# Altium integrated library Motorola Microcontroller 32-Bit.IntLib: 337 symbols (part 10 of 29)
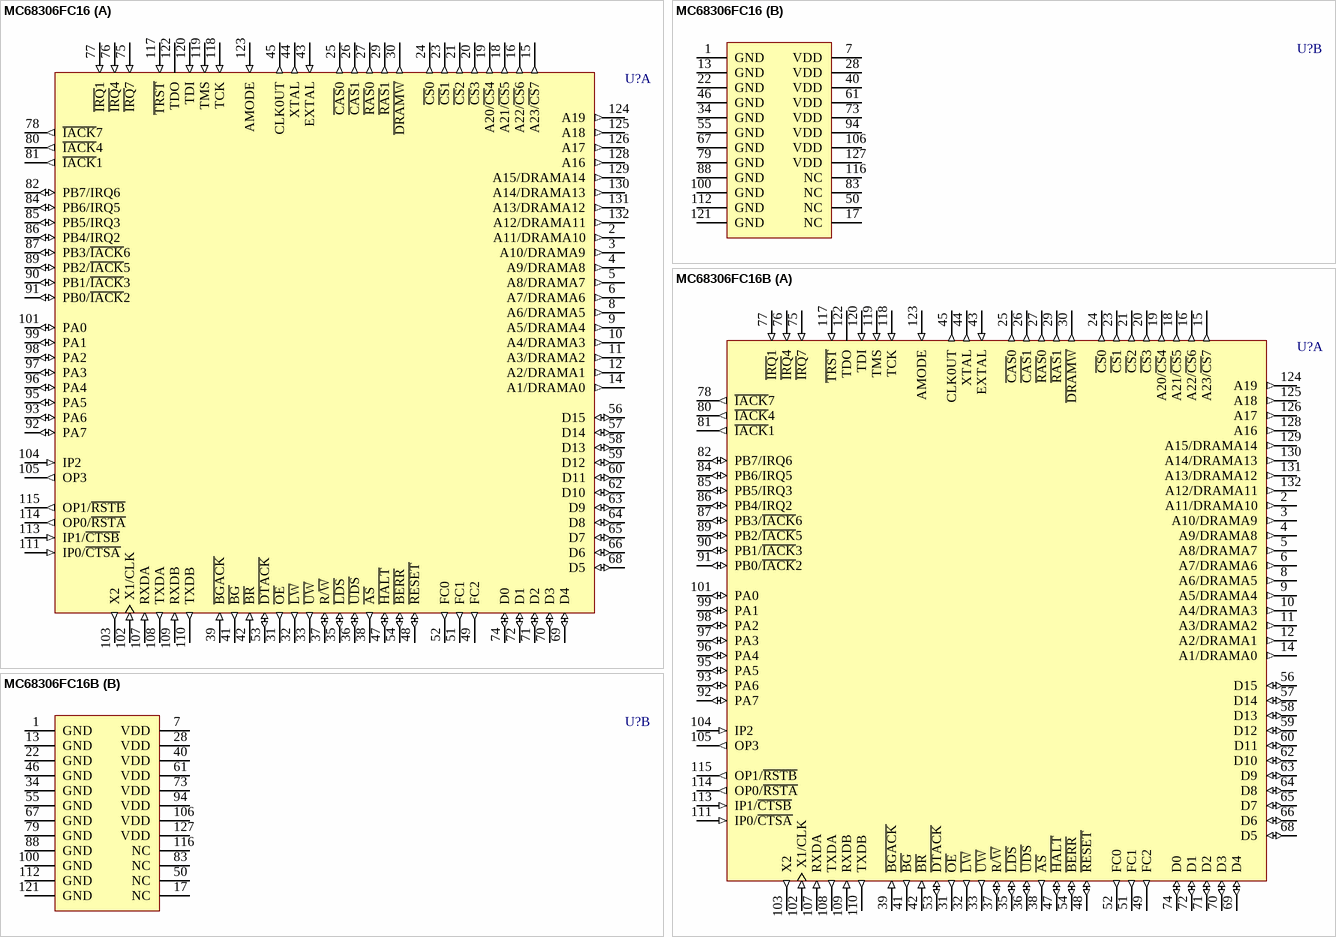
[diagram p249: symbols MC68306FC16 to MC68306FC16B]

## MC68306FC16
designator U?
Integrated EC000 Processor; Published: 21-Mar-2003; DatasheetVersion: 31-Jan-1993; PackageVersion: 1997; PackageReference: 831A-01; Publisher: Altium Limited; PackageDescription: PQFP; 132 Leads; Body 24 x 24 mm; Pitch 0.635 mm; ComponentLink1Description: Manufacturer Link; ComponentLink1URL: http://www.freescale.com/
footprint 831A-01 (PQFP; 132 Leads; Body 24 x 24 mm; Pitch 0.635 mm)
part A pins: 2 A11/DRAMA10 (out), 3 A10/DRAMA9 (out), 4 A9/DRAMA8 (out), 5 A8/DRAMA7 (out), 6 A7/DRAMA6 (out), 8 A6/DRAMA5 (out), 9 A5/DRAMA4 (out), 10 A4/DRAMA3 (out), 11 A3/DRAMA2 (out), 12 A2/DRAMA1 (out), 14 A1/DRAMA0 (out), 15 A23/~{CS}7 (out), 16 A22/~{CS}6 (out), 18 A21/~{CS}5 (out), 19 A20/~{CS}4 (out), 20 ~{CS}3 (out), 21 ~{CS}2 (out), 23 ~{CS}1 (out), 24 ~{CS}0 (out), 25 ~{CAS}0 (out), 26 ~{CAS}1 (out), 27 ~{RAS}0 (out), 29 ~{RAS}1 (out), 30 ~{DRAMW} (out), 31 ~{OE} (out), 32 ~{LW} (out), 33 ~{UW} (out), 35 ~{LDS} (io), 36 ~{UDS} (io), 37 R/~{W} (io), 38 ~{AS} (out), 39 ~{BGACK} (in), 41 ~{BG} (out), 42 ~{BR} (in), 43 EXTAL (in), 44 XTAL (out), 45 CLK0UT (out), 47 ~{HALT} (io), 48 ~{RESET} (io), 49 FC2 (out), 51 FC1 (out), 52 FC0 (out), 53 ~{DTACK} (io), 54 ~{BERR} (io), 56 D15 (io), 57 D14 (io), 58 D13 (io), 59 D12 (io), 60 D11 (io), 62 D10 (io), 63 D9 (io), 64 D8 (io), 65 D7 (io), 66 D6 (io), 68 D5 (io), 69 D4 (io), 70 D3 (io), 71 D2 (io), 72 D1 (io), 74 D0 (io), 75 ~{IRQ}7 (in), 76 ~{IRQ}4 (in), 77 ~{IRQ}1 (in), 78 ~{IACK}7 (out), 80 ~{IACK}4 (out), 81 ~{IACK}1 (out), 82 PB7/IRQ6 (io), 84 PB6/IRQ5 (io), 85 PB5/IRQ3 (io), 86 PB4/IRQ2 (io), 87 PB3/~{IACK}6 (io), 89 PB2/~{IACK}5 (io), 90 PB1/~{IACK}3 (io), 91 PB0/~{IACK}2 (io), 92 PA7 (io), 93 PA6 (io), 95 PA5 (io), 96 PA4 (io), 97 PA3 (io), 98 PA2 (io), 99 PA1 (io), 101 PA0 (io), 102 X1/CLK (in), 103 X2 (out), 104 IP2 (in), 105 OP3 (out), 107 RXDA (in), 108 TXDA (out), 109 RXDB (in), 110 TXDB (out), 111 IP0/~{CTSA} (in), 113 IP1/~{CTSB} (in), 114 OP0/~{RSTA} (out), 115 OP1/~{RSTB} (out), 117 ~{TRST} (in), 118 TCK (in), 119 TMS (in), 120 TDI (in), 122 TDO (hiz), 123 AMODE (in), 124 A19 (out), 125 A18 (out), 126 A17 (out), 128 A16 (out), 129 A15/DRAMA14 (out), 130 A14/DRAMA13 (out), 131 A13/DRAMA12 (out), 132 A12/DRAMA11 (out)
part B pins: 1 GND (power), 7 VDD (power), 13 GND (power), 17 NC, 22 GND (power), 28 VDD (power), 34 GND (power), 40 VDD (power), 46 GND (power), 50 NC, 55 GND (power), 61 VDD (power), 67 GND (power), 73 VDD (power), 79 GND (power), 83 NC, 88 GND (power), 94 VDD (power), 100 GND (power), 106 VDD (power), 112 GND (power), 116 NC, 121 GND (power), 127 VDD (power)

## MC68306FC16B
designator U?
Integrated EC000 Processor; Published: 21-Mar-2003; DatasheetVersion: 31-Jan-1993; PackageVersion: 1997; PackageReference: 831A-01; Publisher: Altium Limited; PackageDescription: PQFP; 132 Leads; Body 24 x 24 mm; Pitch 0.635 mm; ComponentLink1Description: Manufacturer Link; ComponentLink1URL: http://www.freescale.com/
footprint 831A-01 (PQFP; 132 Leads; Body 24 x 24 mm; Pitch 0.635 mm)
part A pins: 2 A11/DRAMA10 (out), 3 A10/DRAMA9 (out), 4 A9/DRAMA8 (out), 5 A8/DRAMA7 (out), 6 A7/DRAMA6 (out), 8 A6/DRAMA5 (out), 9 A5/DRAMA4 (out), 10 A4/DRAMA3 (out), 11 A3/DRAMA2 (out), 12 A2/DRAMA1 (out), 14 A1/DRAMA0 (out), 15 A23/~{CS}7 (out), 16 A22/~{CS}6 (out), 18 A21/~{CS}5 (out), 19 A20/~{CS}4 (out), 20 ~{CS}3 (out), 21 ~{CS}2 (out), 23 ~{CS}1 (out), 24 ~{CS}0 (out), 25 ~{CAS}0 (out), 26 ~{CAS}1 (out), 27 ~{RAS}0 (out), 29 ~{RAS}1 (out), 30 ~{DRAMW} (out), 31 ~{OE} (out), 32 ~{LW} (out), 33 ~{UW} (out), 35 ~{LDS} (io), 36 ~{UDS} (io), 37 R/~{W} (io), 38 ~{AS} (out), 39 ~{BGACK} (in), 41 ~{BG} (out), 42 ~{BR} (in), 43 EXTAL (in), 44 XTAL (out), 45 CLK0UT (out), 47 ~{HALT} (io), 48 ~{RESET} (io), 49 FC2 (out), 51 FC1 (out), 52 FC0 (out), 53 ~{DTACK} (io), 54 ~{BERR} (io), 56 D15 (io), 57 D14 (io), 58 D13 (io), 59 D12 (io), 60 D11 (io), 62 D10 (io), 63 D9 (io), 64 D8 (io), 65 D7 (io), 66 D6 (io), 68 D5 (io), 69 D4 (io), 70 D3 (io), 71 D2 (io), 72 D1 (io), 74 D0 (io), 75 ~{IRQ}7 (in), 76 ~{IRQ}4 (in), 77 ~{IRQ}1 (in), 78 ~{IACK}7 (out), 80 ~{IACK}4 (out), 81 ~{IACK}1 (out), 82 PB7/IRQ6 (io), 84 PB6/IRQ5 (io), 85 PB5/IRQ3 (io), 86 PB4/IRQ2 (io), 87 PB3/~{IACK}6 (io), 89 PB2/~{IACK}5 (io), 90 PB1/~{IACK}3 (io), 91 PB0/~{IACK}2 (io), 92 PA7 (io), 93 PA6 (io), 95 PA5 (io), 96 PA4 (io), 97 PA3 (io), 98 PA2 (io), 99 PA1 (io), 101 PA0 (io), 102 X1/CLK (in), 103 X2 (out), 104 IP2 (in), 105 OP3 (out), 107 RXDA (in), 108 TXDA (out), 109 RXDB (in), 110 TXDB (out), 111 IP0/~{CTSA} (in), 113 IP1/~{CTSB} (in), 114 OP0/~{RSTA} (out), 115 OP1/~{RSTB} (out), 117 ~{TRST} (in), 118 TCK (in), 119 TMS (in), 120 TDI (in), 122 TDO (hiz), 123 AMODE (in), 124 A19 (out), 125 A18 (out), 126 A17 (out), 128 A16 (out), 129 A15/DRAMA14 (out), 130 A14/DRAMA13 (out), 131 A13/DRAMA12 (out), 132 A12/DRAMA11 (out)
part B pins: 1 GND (power), 7 VDD (power), 13 GND (power), 17 NC, 22 GND (power), 28 VDD (power), 34 GND (power), 40 VDD (power), 46 GND (power), 50 NC, 55 GND (power), 61 VDD (power), 67 GND (power), 73 VDD (power), 79 GND (power), 83 NC, 88 GND (power), 94 VDD (power), 100 GND (power), 106 VDD (power), 112 GND (power), 116 NC, 121 GND (power), 127 VDD (power)

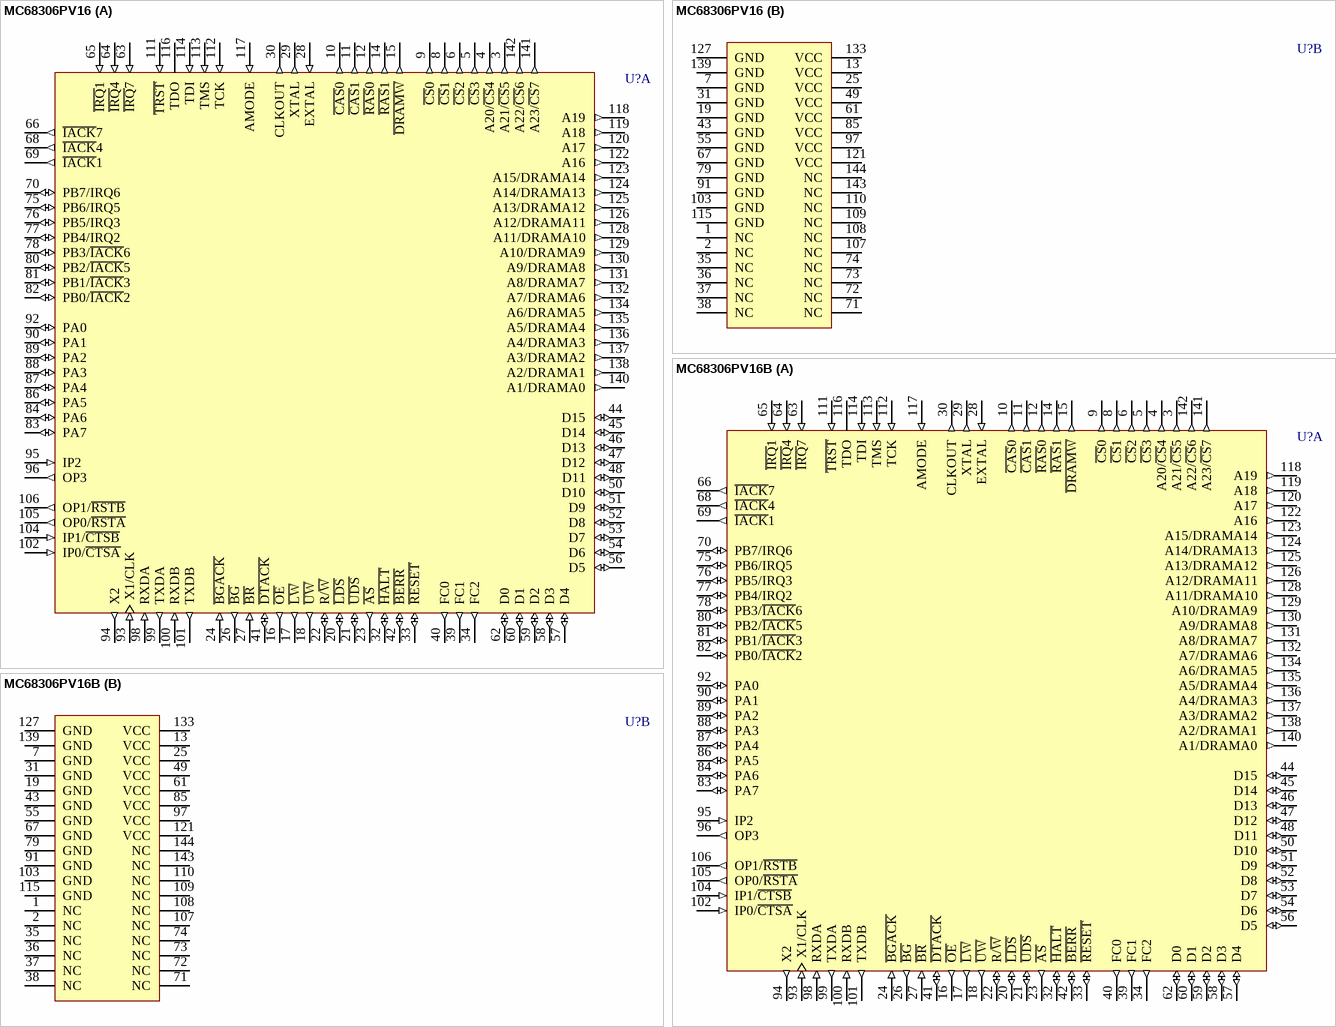
[diagram p87: symbols MC68306PV16 to MC68306PV16B]

## MC68306PV16
designator U?
Integrated EC000 Processor; Published: 21-Mar-2003; LatestRevisionDate: 13-Apr-2006; LatestRevisionNote: IPC-7351 Footprint Added.; DatasheetVersion: 31-Jan-1993; PackageVersion: 1995; PackageReference: 918-02; Publisher: Altium Limited; PackageDescription: 144-Pin Thin Quad Flat Pack 0.5 mm Pitch; ComponentLink1Description: Manufacturer Link; ComponentLink1URL: http://www.freescale.com/
footprint 918-02_N (Thin QFP, 144-Leads, Body 20x20mm, Pitch 0.5mm, IPC Medium Density)
footprint 918-02_L (Thin QFP, 144-Leads, Body 20x20mm, Pitch 0.5mm, IPC High Density)
footprint 918-02_M (Thin QFP, 144-Leads, Body 20x20mm, Pitch 0.5mm, IPC Low Density)
3D model MC68306-918 (144-Pin Thin Quad Flat Pack 0.5 mm Pitch)
part A pins: 3 A21/~{CS}5 (out), 4 A20/~{CS}4 (out), 5 ~{CS}3 (out), 6 ~{CS}2 (out), 8 ~{CS}1 (out), 9 ~{CS}0 (out), 10 ~{CAS}0 (out), 11 ~{CAS}1 (out), 12 ~{RAS}0 (out), 14 ~{RAS}1 (out), 15 ~{DRAMW} (out), 16 ~{OE} (out), 17 ~{LW} (out), 18 ~{UW} (out), 20 ~{LDS} (io), 21 ~{UDS} (io), 22 R/~{W} (io), 23 ~{AS} (out), 24 ~{BGACK} (in), 26 ~{BG} (out), 27 ~{BR} (in), 28 EXTAL (in), 29 XTAL (out), 30 CLKOUT (out), 32 ~{HALT} (io), 33 ~{RESET} (io), 34 FC2 (out), 39 FC1 (out), 40 FC0 (out), 41 ~{DTACK} (io), 42 ~{BERR} (io), 44 D15 (io), 45 D14 (io), 46 D13 (io), 47 D12 (io), 48 D11 (io), 50 D10 (io), 51 D9 (io), 52 D8 (io), 53 D7 (io), 54 D6 (io), 56 D5 (io), 57 D4 (io), 58 D3 (io), 59 D2 (io), 60 D1 (io), 62 D0 (io), 63 ~{IRQ}7 (in), 64 ~{IRQ}4 (in), 65 ~{IRQ}1 (in), 66 ~{IACK}7 (out), 68 ~{IACK}4 (out), 69 ~{IACK}1 (out), 70 PB7/IRQ6 (io), 75 PB6/IRQ5 (io), 76 PB5/IRQ3 (io), 77 PB4/IRQ2 (io), 78 PB3/~{IACK}6 (io), 80 PB2/~{IACK}5 (io), 81 PB1/~{IACK}3 (io), 82 PB0/~{IACK}2 (io), 83 PA7 (io), 84 PA6 (io), 86 PA5 (io), 87 PA4 (io), 88 PA3 (io), 89 PA2 (io), 90 PA1 (io), 92 PA0 (io), 93 X1/CLK (in), 94 X2 (out), 95 IP2 (in), 96 OP3 (out), 98 RXDA (in), 99 TXDA (out), 100 RXDB (in), 101 TXDB (out), 102 IP0/~{CTSA} (in), 104 IP1/~{CTSB} (in), 105 OP0/~{RSTA} (out), 106 OP1/~{RSTB} (out), 111 ~{TRST} (in), 112 TCK (in), 113 TMS (in), 114 TDI (in), 116 TDO (hiz), 117 AMODE (in), 118 A19 (out), 119 A18 (out), 120 A17 (out), 122 A16 (out), 123 A15/DRAMA14 (out), 124 A14/DRAMA13 (out), 125 A13/DRAMA12 (out), 126 A12/DRAMA11 (out), 128 A11/DRAMA10 (out), 129 A10/DRAMA9 (out), 130 A9/DRAMA8 (out), 131 A8/DRAMA7 (out), 132 A7/DRAMA6 (out), 134 A6/DRAMA5 (out), 135 A5/DRAMA4 (out), 136 A4/DRAMA3 (out), 137 A3/DRAMA2 (out), 138 A2/DRAMA1 (out), 140 A1/DRAMA0 (out), 141 A23/~{CS}7 (out), 142 A22/~{CS}6 (out)
part B pins: 1 NC, 2 NC, 7 GND (power), 13 VCC (power), 19 GND (power), 25 VCC (power), 31 GND (power), 35 NC, 36 NC, 37 NC, 38 NC, 43 GND (power), 49 VCC (power), 55 GND (power), 61 VCC (power), 67 GND (power), 71 NC, 72 NC, 73 NC, 74 NC, 79 GND (power), 85 VCC (power), 91 GND (power), 97 VCC (power), 103 GND (power), 107 NC, 108 NC, 109 NC, 110 NC, 115 GND (power), 121 VCC (power), 127 GND (power), 133 VCC (power), 139 GND (power), 143 NC, 144 NC

## MC68306PV16B
designator U?
Integrated EC000 Processor; Published: 21-Mar-2003; LatestRevisionDate: 13-Apr-2006; LatestRevisionNote: IPC-7351 Footprint Added.; DatasheetVersion: 31-Jan-1993; PackageVersion: 1995; PackageReference: 918-02; Publisher: Altium Limited; PackageDescription: 144-Pin Thin Quad Flat Pack 0.5 mm Pitch; ComponentLink1Description: Manufacturer Link; ComponentLink1URL: http://www.freescale.com/
footprint 918-02_N (Thin QFP, 144-Leads, Body 20x20mm, Pitch 0.5mm, IPC Medium Density)
footprint 918-02_L (Thin QFP, 144-Leads, Body 20x20mm, Pitch 0.5mm, IPC High Density)
footprint 918-02_M (Thin QFP, 144-Leads, Body 20x20mm, Pitch 0.5mm, IPC Low Density)
3D model MC68306-918 (144-Pin Thin Quad Flat Pack 0.5 mm Pitch)
part A pins: 3 A21/~{CS}5 (out), 4 A20/~{CS}4 (out), 5 ~{CS}3 (out), 6 ~{CS}2 (out), 8 ~{CS}1 (out), 9 ~{CS}0 (out), 10 ~{CAS}0 (out), 11 ~{CAS}1 (out), 12 ~{RAS}0 (out), 14 ~{RAS}1 (out), 15 ~{DRAMW} (out), 16 ~{OE} (out), 17 ~{LW} (out), 18 ~{UW} (out), 20 ~{LDS} (io), 21 ~{UDS} (io), 22 R/~{W} (io), 23 ~{AS} (out), 24 ~{BGACK} (in), 26 ~{BG} (out), 27 ~{BR} (in), 28 EXTAL (in), 29 XTAL (out), 30 CLKOUT (out), 32 ~{HALT} (io), 33 ~{RESET} (io), 34 FC2 (out), 39 FC1 (out), 40 FC0 (out), 41 ~{DTACK} (io), 42 ~{BERR} (io), 44 D15 (io), 45 D14 (io), 46 D13 (io), 47 D12 (io), 48 D11 (io), 50 D10 (io), 51 D9 (io), 52 D8 (io), 53 D7 (io), 54 D6 (io), 56 D5 (io), 57 D4 (io), 58 D3 (io), 59 D2 (io), 60 D1 (io), 62 D0 (io), 63 ~{IRQ}7 (in), 64 ~{IRQ}4 (in), 65 ~{IRQ}1 (in), 66 ~{IACK}7 (out), 68 ~{IACK}4 (out), 69 ~{IACK}1 (out), 70 PB7/IRQ6 (io), 75 PB6/IRQ5 (io), 76 PB5/IRQ3 (io), 77 PB4/IRQ2 (io), 78 PB3/~{IACK}6 (io), 80 PB2/~{IACK}5 (io), 81 PB1/~{IACK}3 (io), 82 PB0/~{IACK}2 (io), 83 PA7 (io), 84 PA6 (io), 86 PA5 (io), 87 PA4 (io), 88 PA3 (io), 89 PA2 (io), 90 PA1 (io), 92 PA0 (io), 93 X1/CLK (in), 94 X2 (out), 95 IP2 (in), 96 OP3 (out), 98 RXDA (in), 99 TXDA (out), 100 RXDB (in), 101 TXDB (out), 102 IP0/~{CTSA} (in), 104 IP1/~{CTSB} (in), 105 OP0/~{RSTA} (out), 106 OP1/~{RSTB} (out), 111 ~{TRST} (in), 112 TCK (in), 113 TMS (in), 114 TDI (in), 116 TDO (hiz), 117 AMODE (in), 118 A19 (out), 119 A18 (out), 120 A17 (out), 122 A16 (out), 123 A15/DRAMA14 (out), 124 A14/DRAMA13 (out), 125 A13/DRAMA12 (out), 126 A12/DRAMA11 (out), 128 A11/DRAMA10 (out), 129 A10/DRAMA9 (out), 130 A9/DRAMA8 (out), 131 A8/DRAMA7 (out), 132 A7/DRAMA6 (out), 134 A6/DRAMA5 (out), 135 A5/DRAMA4 (out), 136 A4/DRAMA3 (out), 137 A3/DRAMA2 (out), 138 A2/DRAMA1 (out), 140 A1/DRAMA0 (out), 141 A23/~{CS}7 (out), 142 A22/~{CS}6 (out)
part B pins: 1 NC, 2 NC, 7 GND (power), 13 VCC (power), 19 GND (power), 25 VCC (power), 31 GND (power), 35 NC, 36 NC, 37 NC, 38 NC, 43 GND (power), 49 VCC (power), 55 GND (power), 61 VCC (power), 67 GND (power), 71 NC, 72 NC, 73 NC, 74 NC, 79 GND (power), 85 VCC (power), 91 GND (power), 97 VCC (power), 103 GND (power), 107 NC, 108 NC, 109 NC, 110 NC, 115 GND (power), 121 VCC (power), 127 GND (power), 133 VCC (power), 139 GND (power), 143 NC, 144 NC

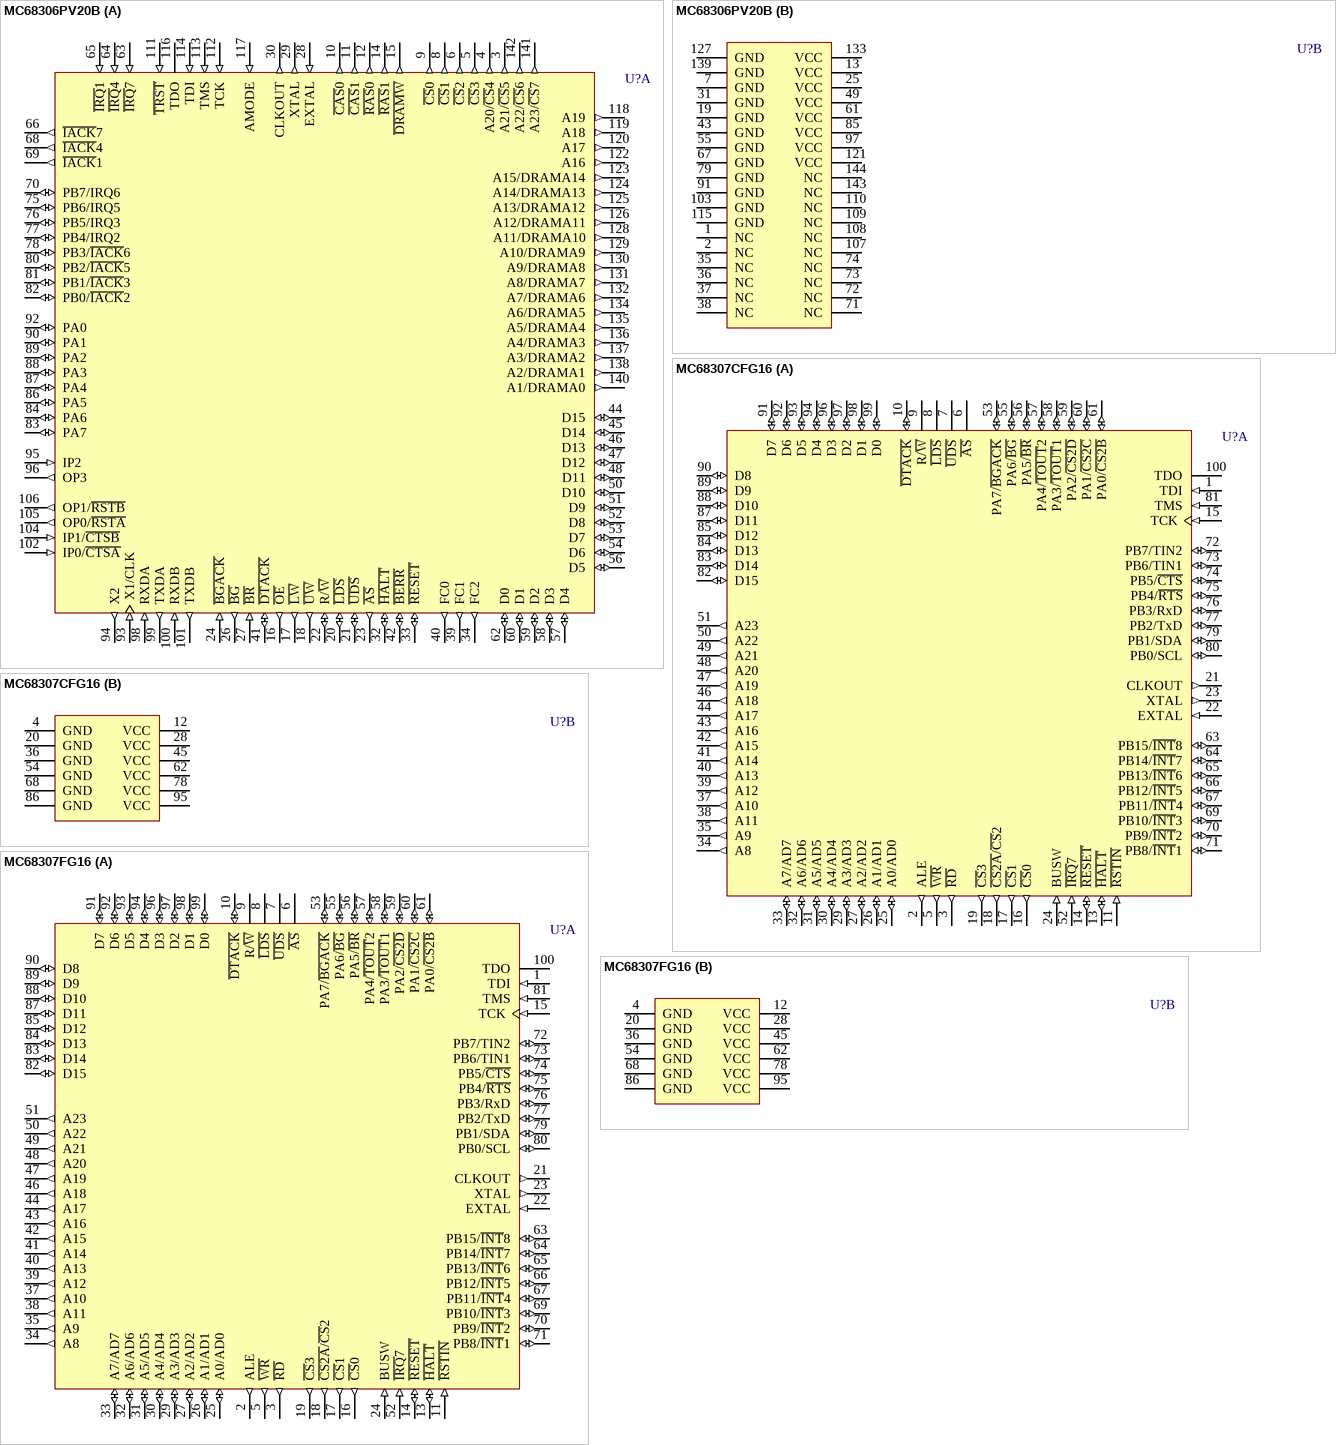
[diagram p88: symbols MC68306PV20B to MC68307FG16]

## MC68306PV20B
designator U?
Integrated EC000 Processor; Published: 21-Mar-2003; LatestRevisionDate: 13-Apr-2006; LatestRevisionNote: IPC-7351 Footprint Added.; DatasheetVersion: 31-Jan-1993; PackageVersion: 1995; PackageReference: 918-02; Publisher: Altium Limited; PackageDescription: 144-Pin Thin Quad Flat Pack 0.5 mm Pitch; ComponentLink1Description: Manufacturer Link; ComponentLink1URL: http://www.freescale.com/
footprint 918-02_N (Thin QFP, 144-Leads, Body 20x20mm, Pitch 0.5mm, IPC Medium Density)
footprint 918-02_L (Thin QFP, 144-Leads, Body 20x20mm, Pitch 0.5mm, IPC High Density)
footprint 918-02_M (Thin QFP, 144-Leads, Body 20x20mm, Pitch 0.5mm, IPC Low Density)
3D model MC68306-918 (144-Pin Thin Quad Flat Pack 0.5 mm Pitch)
part A pins: 3 A21/~{CS}5 (out), 4 A20/~{CS}4 (out), 5 ~{CS}3 (out), 6 ~{CS}2 (out), 8 ~{CS}1 (out), 9 ~{CS}0 (out), 10 ~{CAS}0 (out), 11 ~{CAS}1 (out), 12 ~{RAS}0 (out), 14 ~{RAS}1 (out), 15 ~{DRAMW} (out), 16 ~{OE} (out), 17 ~{LW} (out), 18 ~{UW} (out), 20 ~{LDS} (io), 21 ~{UDS} (io), 22 R/~{W} (io), 23 ~{AS} (out), 24 ~{BGACK} (in), 26 ~{BG} (out), 27 ~{BR} (in), 28 EXTAL (in), 29 XTAL (out), 30 CLKOUT (out), 32 ~{HALT} (io), 33 ~{RESET} (io), 34 FC2 (out), 39 FC1 (out), 40 FC0 (out), 41 ~{DTACK} (io), 42 ~{BERR} (io), 44 D15 (io), 45 D14 (io), 46 D13 (io), 47 D12 (io), 48 D11 (io), 50 D10 (io), 51 D9 (io), 52 D8 (io), 53 D7 (io), 54 D6 (io), 56 D5 (io), 57 D4 (io), 58 D3 (io), 59 D2 (io), 60 D1 (io), 62 D0 (io), 63 ~{IRQ}7 (in), 64 ~{IRQ}4 (in), 65 ~{IRQ}1 (in), 66 ~{IACK}7 (out), 68 ~{IACK}4 (out), 69 ~{IACK}1 (out), 70 PB7/IRQ6 (io), 75 PB6/IRQ5 (io), 76 PB5/IRQ3 (io), 77 PB4/IRQ2 (io), 78 PB3/~{IACK}6 (io), 80 PB2/~{IACK}5 (io), 81 PB1/~{IACK}3 (io), 82 PB0/~{IACK}2 (io), 83 PA7 (io), 84 PA6 (io), 86 PA5 (io), 87 PA4 (io), 88 PA3 (io), 89 PA2 (io), 90 PA1 (io), 92 PA0 (io), 93 X1/CLK (in), 94 X2 (out), 95 IP2 (in), 96 OP3 (out), 98 RXDA (in), 99 TXDA (out), 100 RXDB (in), 101 TXDB (out), 102 IP0/~{CTSA} (in), 104 IP1/~{CTSB} (in), 105 OP0/~{RSTA} (out), 106 OP1/~{RSTB} (out), 111 ~{TRST} (in), 112 TCK (in), 113 TMS (in), 114 TDI (in), 116 TDO (hiz), 117 AMODE (in), 118 A19 (out), 119 A18 (out), 120 A17 (out), 122 A16 (out), 123 A15/DRAMA14 (out), 124 A14/DRAMA13 (out), 125 A13/DRAMA12 (out), 126 A12/DRAMA11 (out), 128 A11/DRAMA10 (out), 129 A10/DRAMA9 (out), 130 A9/DRAMA8 (out), 131 A8/DRAMA7 (out), 132 A7/DRAMA6 (out), 134 A6/DRAMA5 (out), 135 A5/DRAMA4 (out), 136 A4/DRAMA3 (out), 137 A3/DRAMA2 (out), 138 A2/DRAMA1 (out), 140 A1/DRAMA0 (out), 141 A23/~{CS}7 (out), 142 A22/~{CS}6 (out)
part B pins: 1 NC, 2 NC, 7 GND (power), 13 VCC (power), 19 GND (power), 25 VCC (power), 31 GND (power), 35 NC, 36 NC, 37 NC, 38 NC, 43 GND (power), 49 VCC (power), 55 GND (power), 61 VCC (power), 67 GND (power), 71 NC, 72 NC, 73 NC, 74 NC, 79 GND (power), 85 VCC (power), 91 GND (power), 97 VCC (power), 103 GND (power), 107 NC, 108 NC, 109 NC, 110 NC, 115 GND (power), 121 VCC (power), 127 GND (power), 133 VCC (power), 139 GND (power), 143 NC, 144 NC

## MC68307CFG16
designator U?
Integrated Multiple-Bus Processor; Published: 21-Mar-2003; LatestRevisionDate: 13-Apr-2006; LatestRevisionNote: IPC-7351 Footprint Added.; DatasheetVersion: 24-Jan-1994; PackageVersion: 1994; PackageReference: 842B-01; Publisher: Altium Limited; PackageDescription: 100-Pin Quad Flat Pack Rectangular 0.65 mm Pitch; Code_IPC: QFP65P1720X2320-100; ComponentLink1Description: Manufacturer Link; ComponentLink1URL: http://www.freescale.com/
footprint 842B-01_N (QFP, 100-Leads, Body 20x14mm, Pitch 0.65mm, IPC Medium Density)
footprint 842B-01_L (QFP, 100-Leads, Body 20x14mm, Pitch 0.65mm, IPC High Density)
footprint 842B-01_M (QFP, 100-Leads, Body 20x14mm, Pitch 0.65mm, IPC Low Density)
3D model MC68307-842B-01 (100-Pin Quad Flat Pack Rectangular 0.65 mm Pitch)
part A pins: 1 TDI (in), 2 ALE (out), 3 ~{RD} (out), 5 ~{WR} (out), 6 ~{AS} (hiz), 7 ~{UDS} (hiz), 8 ~{LDS} (hiz), 9 R/~{W} (hiz), 10 ~{DTACK} (io), 11 ~{RSTIN} (in), 13 ~{HALT} (io), 14 ~{RESET} (io), 15 TCK (in), 16 ~{CS}0 (out), 17 ~{CS}1 (out), 18 ~{CS2A}/~{CS}2 (out), 19 ~{CS}3 (out), 21 CLKOUT (out), 22 EXTAL (in), 23 XTAL (out), 24 BUSW (in), 25 A0/AD0 (io), 26 A1/AD1 (io), 27 A2/AD2 (io), 29 A3/AD3 (io), 30 A4/AD4 (io), 31 A5/AD5 (io), 32 A6/AD6 (io), 33 A7/AD7 (io), 34 A8 (out), 35 A9 (out), 37 A10 (out), 38 A11 (out), 39 A12 (out), 40 A13 (out), 41 A14 (out), 42 A15 (out), 43 A16 (out), 44 A17 (out), 46 A18 (out), 47 A19 (out), 48 A20 (out), 49 A21 (out), 50 A22 (out), 51 A23 (out), 52 ~{IRQ}7 (in), 53 PA7/~{BGACK} (io), 55 PA6/~{BG} (io), 56 PA5/~{BR} (io), 57 PA4/~{TOUT}2 (io), 58 PA3/~{TOUT}1 (io), 59 PA2/~{CS2D} (io), 60 PA1/~{CS2C} (io), 61 PA0/~{CS2B} (io), 63 PB15/~{INT}8 (io), 64 PB14/~{INT}7 (io), 65 PB13/~{INT}6 (io), 66 PB12/~{INT}5 (io), 67 PB11/~{INT}4 (io), 69 PB10/~{INT}3 (io), 70 PB9/~{INT}2 (io), 71 PB8/~{INT}1 (io), 72 PB7/TIN2 (io), 73 PB6/TIN1 (io), 74 PB5/~{CTS} (io), 75 PB4/~{RTS} (io), 76 PB3/RxD (io), 77 PB2/TxD (io), 79 PB1/SDA (io), 80 PB0/SCL (io), 81 TMS (in), 82 D15 (io), 83 D14 (io), 84 D13 (io), 85 D12 (io), 87 D11 (io), 88 D10 (io), 89 D9 (io), 90 D8 (io), 91 D7 (io), 92 D6 (io), 93 D5 (io), 94 D4 (io), 96 D3 (io), 97 D2 (io), 98 D1 (io), 99 D0 (io), 100 TDO (hiz)
part B pins: 4 GND (power), 12 VCC (power), 20 GND (power), 28 VCC (power), 36 GND (power), 45 VCC (power), 54 GND (power), 62 VCC (power), 68 GND (power), 78 VCC (power), 86 GND (power), 95 VCC (power)

## MC68307FG16
designator U?
Integrated Multiple-Bus Processor; Published: 21-Mar-2003; LatestRevisionDate: 13-Apr-2006; LatestRevisionNote: IPC-7351 Footprint Added.; DatasheetVersion: 24-Jan-1994; PackageVersion: 1994; PackageReference: 842B-01; Publisher: Altium Limited; PackageDescription: 100-Pin Quad Flat Pack Rectangular 0.65 mm Pitch; Code_IPC: QFP65P1720X2320-100; ComponentLink1Description: Manufacturer Link; ComponentLink1URL: http://www.freescale.com/
footprint 842B-01_N (QFP, 100-Leads, Body 20x14mm, Pitch 0.65mm, IPC Medium Density)
footprint 842B-01_L (QFP, 100-Leads, Body 20x14mm, Pitch 0.65mm, IPC High Density)
footprint 842B-01_M (QFP, 100-Leads, Body 20x14mm, Pitch 0.65mm, IPC Low Density)
3D model MC68307-842B-01 (100-Pin Quad Flat Pack Rectangular 0.65 mm Pitch)
part A pins: 1 TDI (in), 2 ALE (out), 3 ~{RD} (out), 5 ~{WR} (out), 6 ~{AS} (hiz), 7 ~{UDS} (hiz), 8 ~{LDS} (hiz), 9 R/~{W} (hiz), 10 ~{DTACK} (io), 11 ~{RSTIN} (in), 13 ~{HALT} (io), 14 ~{RESET} (io), 15 TCK (in), 16 ~{CS}0 (out), 17 ~{CS}1 (out), 18 ~{CS2A}/~{CS}2 (out), 19 ~{CS}3 (out), 21 CLKOUT (out), 22 EXTAL (in), 23 XTAL (out), 24 BUSW (in), 25 A0/AD0 (io), 26 A1/AD1 (io), 27 A2/AD2 (io), 29 A3/AD3 (io), 30 A4/AD4 (io), 31 A5/AD5 (io), 32 A6/AD6 (io), 33 A7/AD7 (io), 34 A8 (out), 35 A9 (out), 37 A10 (out), 38 A11 (out), 39 A12 (out), 40 A13 (out), 41 A14 (out), 42 A15 (out), 43 A16 (out), 44 A17 (out), 46 A18 (out), 47 A19 (out), 48 A20 (out), 49 A21 (out), 50 A22 (out), 51 A23 (out), 52 ~{IRQ}7 (in), 53 PA7/~{BGACK} (io), 55 PA6/~{BG} (io), 56 PA5/~{BR} (io), 57 PA4/~{TOUT}2 (io), 58 PA3/~{TOUT}1 (io), 59 PA2/~{CS2D} (io), 60 PA1/~{CS2C} (io), 61 PA0/~{CS2B} (io), 63 PB15/~{INT}8 (io), 64 PB14/~{INT}7 (io), 65 PB13/~{INT}6 (io), 66 PB12/~{INT}5 (io), 67 PB11/~{INT}4 (io), 69 PB10/~{INT}3 (io), 70 PB9/~{INT}2 (io), 71 PB8/~{INT}1 (io), 72 PB7/TIN2 (io), 73 PB6/TIN1 (io), 74 PB5/~{CTS} (io), 75 PB4/~{RTS} (io), 76 PB3/RxD (io), 77 PB2/TxD (io), 79 PB1/SDA (io), 80 PB0/SCL (io), 81 TMS (in), 82 D15 (io), 83 D14 (io), 84 D13 (io), 85 D12 (io), 87 D11 (io), 88 D10 (io), 89 D9 (io), 90 D8 (io), 91 D7 (io), 92 D6 (io), 93 D5 (io), 94 D4 (io), 96 D3 (io), 97 D2 (io), 98 D1 (io), 99 D0 (io), 100 TDO (hiz)
part B pins: 4 GND (power), 12 VCC (power), 20 GND (power), 28 VCC (power), 36 GND (power), 45 VCC (power), 54 GND (power), 62 VCC (power), 68 GND (power), 78 VCC (power), 86 GND (power), 95 VCC (power)

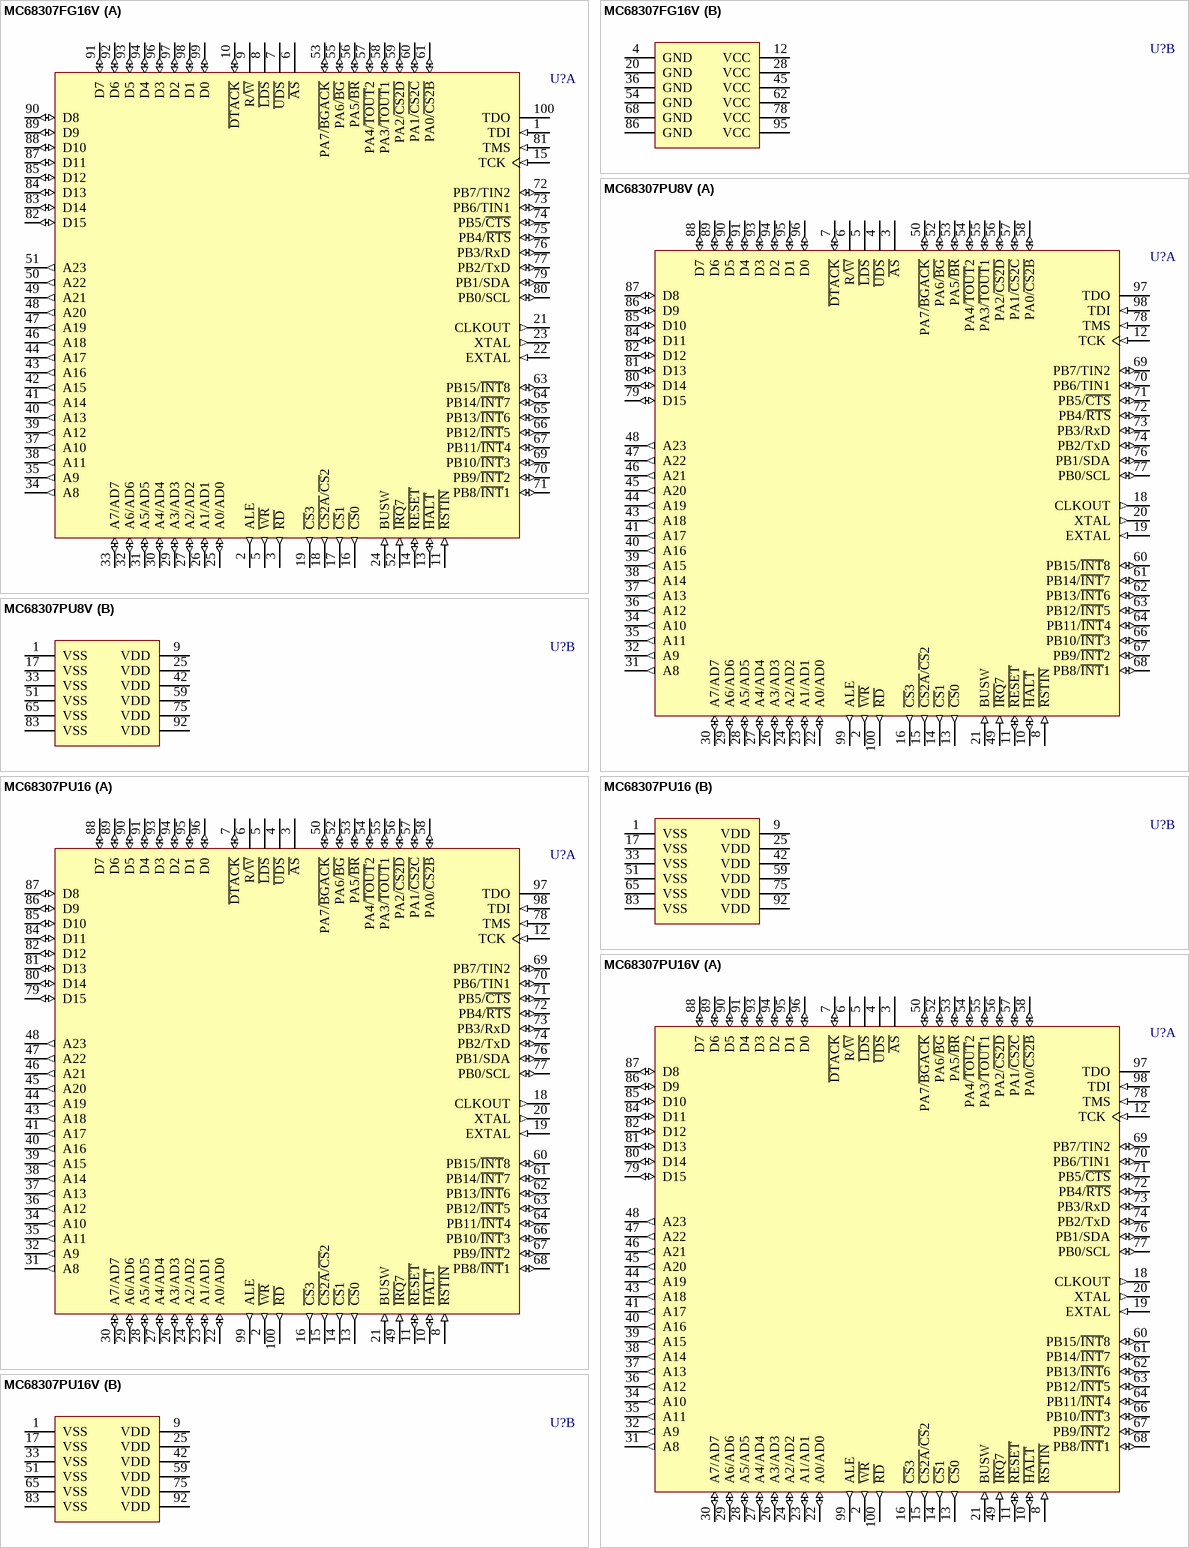
[diagram p89: symbols MC68307FG16V to MC68307PU16V]

## MC68307FG16V
designator U?
Integrated Multiple-Bus Processor; Published: 21-Mar-2003; LatestRevisionDate: 13-Apr-2006; LatestRevisionNote: IPC-7351 Footprint Added.; DatasheetVersion: 24-Jan-1994; PackageVersion: 1994; PackageReference: 842B-01; Publisher: Altium Limited; PackageDescription: 100-Pin Quad Flat Pack Rectangular 0.65 mm Pitch; Code_IPC: QFP65P1720X2320-100; ComponentLink1Description: Manufacturer Link; ComponentLink1URL: http://www.freescale.com/
footprint 842B-01_N (QFP, 100-Leads, Body 20x14mm, Pitch 0.65mm, IPC Medium Density)
footprint 842B-01_L (QFP, 100-Leads, Body 20x14mm, Pitch 0.65mm, IPC High Density)
footprint 842B-01_M (QFP, 100-Leads, Body 20x14mm, Pitch 0.65mm, IPC Low Density)
3D model MC68307-842B-01 (100-Pin Quad Flat Pack Rectangular 0.65 mm Pitch)
part A pins: 1 TDI (in), 2 ALE (out), 3 ~{RD} (out), 5 ~{WR} (out), 6 ~{AS} (hiz), 7 ~{UDS} (hiz), 8 ~{LDS} (hiz), 9 R/~{W} (hiz), 10 ~{DTACK} (io), 11 ~{RSTIN} (in), 13 ~{HALT} (io), 14 ~{RESET} (io), 15 TCK (in), 16 ~{CS}0 (out), 17 ~{CS}1 (out), 18 ~{CS2A}/~{CS}2 (out), 19 ~{CS}3 (out), 21 CLKOUT (out), 22 EXTAL (in), 23 XTAL (out), 24 BUSW (in), 25 A0/AD0 (io), 26 A1/AD1 (io), 27 A2/AD2 (io), 29 A3/AD3 (io), 30 A4/AD4 (io), 31 A5/AD5 (io), 32 A6/AD6 (io), 33 A7/AD7 (io), 34 A8 (out), 35 A9 (out), 37 A10 (out), 38 A11 (out), 39 A12 (out), 40 A13 (out), 41 A14 (out), 42 A15 (out), 43 A16 (out), 44 A17 (out), 46 A18 (out), 47 A19 (out), 48 A20 (out), 49 A21 (out), 50 A22 (out), 51 A23 (out), 52 ~{IRQ}7 (in), 53 PA7/~{BGACK} (io), 55 PA6/~{BG} (io), 56 PA5/~{BR} (io), 57 PA4/~{TOUT}2 (io), 58 PA3/~{TOUT}1 (io), 59 PA2/~{CS2D} (io), 60 PA1/~{CS2C} (io), 61 PA0/~{CS2B} (io), 63 PB15/~{INT}8 (io), 64 PB14/~{INT}7 (io), 65 PB13/~{INT}6 (io), 66 PB12/~{INT}5 (io), 67 PB11/~{INT}4 (io), 69 PB10/~{INT}3 (io), 70 PB9/~{INT}2 (io), 71 PB8/~{INT}1 (io), 72 PB7/TIN2 (io), 73 PB6/TIN1 (io), 74 PB5/~{CTS} (io), 75 PB4/~{RTS} (io), 76 PB3/RxD (io), 77 PB2/TxD (io), 79 PB1/SDA (io), 80 PB0/SCL (io), 81 TMS (in), 82 D15 (io), 83 D14 (io), 84 D13 (io), 85 D12 (io), 87 D11 (io), 88 D10 (io), 89 D9 (io), 90 D8 (io), 91 D7 (io), 92 D6 (io), 93 D5 (io), 94 D4 (io), 96 D3 (io), 97 D2 (io), 98 D1 (io), 99 D0 (io), 100 TDO (hiz)
part B pins: 4 GND (power), 12 VCC (power), 20 GND (power), 28 VCC (power), 36 GND (power), 45 VCC (power), 54 GND (power), 62 VCC (power), 68 GND (power), 78 VCC (power), 86 GND (power), 95 VCC (power)

## MC68307PU8V
designator U?
Integrated Multiple-Bus Processor; Published: 21-Mar-2003; LatestRevisionDate: 13-Apr-2006; LatestRevisionNote: IPC-7351 Footprint Added.; DatasheetVersion: 24-Jan-1994; PackageVersion: 1999; PackageReference: 983-01; Publisher: Altium Limited; PackageDescription: 100-Pin Thin Quad Flat Pack 0.5 mm Pitch; ComponentLink1Description: Manufacturer Link; ComponentLink1URL: http://www.freescale.com/
footprint 983-01_N (Thin QFP, 100-Leads, Body 14x14mm, Pitch 0.5mm, IPC Medium Density)
footprint 983-01_L (Thin QFP, 100-Leads, Body 14x14mm, Pitch 0.5mm, IPC High Density)
footprint 983-01_M (Thin QFP, 100-Leads, Body 14x14mm, Pitch 0.5mm, IPC Low Density)
3D model MC68307-983 (100-Pin Thin Quad Flat Pack 0.5 mm Pitch)
part A pins: 2 ~{WR} (out), 3 ~{AS} (hiz), 4 ~{UDS} (hiz), 5 ~{LDS} (hiz), 6 R/~{W} (hiz), 7 ~{DTACK} (io), 8 ~{RSTIN} (in), 10 ~{HALT} (io), 11 ~{RESET} (io), 12 TCK (in), 13 ~{CS}0 (out), 14 ~{CS}1 (out), 15 ~{CS2A}/~{CS}2 (out), 16 ~{CS}3 (out), 18 CLKOUT (out), 19 EXTAL (in), 20 XTAL (out), 21 BUSW (in), 22 A0/AD0 (io), 23 A1/AD1 (io), 24 A2/AD2 (io), 26 A3/AD3 (io), 27 A4/AD4 (io), 28 A5/AD5 (io), 29 A6/AD6 (io), 30 A7/AD7 (io), 31 A8 (out), 32 A9 (out), 34 A10 (out), 35 A11 (out), 36 A12 (out), 37 A13 (out), 38 A14 (out), 39 A15 (out), 40 A16 (out), 41 A17 (out), 43 A18 (out), 44 A19 (out), 45 A20 (out), 46 A21 (out), 47 A22 (out), 48 A23 (out), 49 ~{IRQ}7 (in), 50 PA7/~{BGACK} (io), 52 PA6/~{BG} (io), 53 PA5/~{BR} (io), 54 PA4/~{TOUT}2 (io), 55 PA3/~{TOUT}1 (io), 56 PA2/~{CS2D} (io), 57 PA1/~{CS2C} (io), 58 PA0/~{CS2B} (io), 60 PB15/~{INT}8 (io), 61 PB14/~{INT}7 (io), 62 PB13/~{INT}6 (io), 63 PB12/~{INT}5 (io), 64 PB11/~{INT}4 (io), 66 PB10/~{INT}3 (io), 67 PB9/~{INT}2 (io), 68 PB8/~{INT}1 (io), 69 PB7/TIN2 (io), 70 PB6/TIN1 (io), 71 PB5/~{CTS} (io), 72 PB4/~{RTS} (io), 73 PB3/RxD (io), 74 PB2/TxD (io), 76 PB1/SDA (io), 77 PB0/SCL (io), 78 TMS (in), 79 D15 (io), 80 D14 (io), 81 D13 (io), 82 D12 (io), 84 D11 (io), 85 D10 (io), 86 D9 (io), 87 D8 (io), 88 D7 (io), 89 D6 (io), 90 D5 (io), 91 D4 (io), 93 D3 (io), 94 D2 (io), 95 D1 (io), 96 D0 (io), 97 TDO (hiz), 98 TDI (in), 99 ALE (out), 100 ~{RD} (out)
part B pins: 1 VSS (power), 9 VDD (power), 17 VSS (power), 25 VDD (power), 33 VSS (power), 42 VDD (power), 51 VSS (power), 59 VDD (power), 65 VSS (power), 75 VDD (power), 83 VSS (power), 92 VDD (power)

## MC68307PU16
designator U?
Integrated Multiple-Bus Processor; Published: 21-Mar-2003; LatestRevisionDate: 13-Apr-2006; LatestRevisionNote: IPC-7351 Footprint Added.; DatasheetVersion: 24-Jan-1994; PackageVersion: 1999; PackageReference: 983-01; Publisher: Altium Limited; PackageDescription: 100-Pin Thin Quad Flat Pack 0.5 mm Pitch; ComponentLink1Description: Manufacturer Link; ComponentLink1URL: http://www.freescale.com/
footprint 983-01_N (Thin QFP, 100-Leads, Body 14x14mm, Pitch 0.5mm, IPC Medium Density)
footprint 983-01_L (Thin QFP, 100-Leads, Body 14x14mm, Pitch 0.5mm, IPC High Density)
footprint 983-01_M (Thin QFP, 100-Leads, Body 14x14mm, Pitch 0.5mm, IPC Low Density)
3D model MC68307-983 (100-Pin Thin Quad Flat Pack 0.5 mm Pitch)
part A pins: 2 ~{WR} (out), 3 ~{AS} (hiz), 4 ~{UDS} (hiz), 5 ~{LDS} (hiz), 6 R/~{W} (hiz), 7 ~{DTACK} (io), 8 ~{RSTIN} (in), 10 ~{HALT} (io), 11 ~{RESET} (io), 12 TCK (in), 13 ~{CS}0 (out), 14 ~{CS}1 (out), 15 ~{CS2A}/~{CS}2 (out), 16 ~{CS}3 (out), 18 CLKOUT (out), 19 EXTAL (in), 20 XTAL (out), 21 BUSW (in), 22 A0/AD0 (io), 23 A1/AD1 (io), 24 A2/AD2 (io), 26 A3/AD3 (io), 27 A4/AD4 (io), 28 A5/AD5 (io), 29 A6/AD6 (io), 30 A7/AD7 (io), 31 A8 (out), 32 A9 (out), 34 A10 (out), 35 A11 (out), 36 A12 (out), 37 A13 (out), 38 A14 (out), 39 A15 (out), 40 A16 (out), 41 A17 (out), 43 A18 (out), 44 A19 (out), 45 A20 (out), 46 A21 (out), 47 A22 (out), 48 A23 (out), 49 ~{IRQ}7 (in), 50 PA7/~{BGACK} (io), 52 PA6/~{BG} (io), 53 PA5/~{BR} (io), 54 PA4/~{TOUT}2 (io), 55 PA3/~{TOUT}1 (io), 56 PA2/~{CS2D} (io), 57 PA1/~{CS2C} (io), 58 PA0/~{CS2B} (io), 60 PB15/~{INT}8 (io), 61 PB14/~{INT}7 (io), 62 PB13/~{INT}6 (io), 63 PB12/~{INT}5 (io), 64 PB11/~{INT}4 (io), 66 PB10/~{INT}3 (io), 67 PB9/~{INT}2 (io), 68 PB8/~{INT}1 (io), 69 PB7/TIN2 (io), 70 PB6/TIN1 (io), 71 PB5/~{CTS} (io), 72 PB4/~{RTS} (io), 73 PB3/RxD (io), 74 PB2/TxD (io), 76 PB1/SDA (io), 77 PB0/SCL (io), 78 TMS (in), 79 D15 (io), 80 D14 (io), 81 D13 (io), 82 D12 (io), 84 D11 (io), 85 D10 (io), 86 D9 (io), 87 D8 (io), 88 D7 (io), 89 D6 (io), 90 D5 (io), 91 D4 (io), 93 D3 (io), 94 D2 (io), 95 D1 (io), 96 D0 (io), 97 TDO (hiz), 98 TDI (in), 99 ALE (out), 100 ~{RD} (out)
part B pins: 1 VSS (power), 9 VDD (power), 17 VSS (power), 25 VDD (power), 33 VSS (power), 42 VDD (power), 51 VSS (power), 59 VDD (power), 65 VSS (power), 75 VDD (power), 83 VSS (power), 92 VDD (power)

## MC68307PU16V
designator U?
Integrated Multiple-Bus Processor; Published: 21-Mar-2003; LatestRevisionDate: 13-Apr-2006; LatestRevisionNote: IPC-7351 Footprint Added.; DatasheetVersion: 24-Jan-1994; PackageVersion: 1999; PackageReference: 983-01; Publisher: Altium Limited; PackageDescription: 100-Pin Thin Quad Flat Pack 0.5 mm Pitch; ComponentLink1Description: Manufacturer Link; ComponentLink1URL: http://www.freescale.com/
footprint 983-01_N (Thin QFP, 100-Leads, Body 14x14mm, Pitch 0.5mm, IPC Medium Density)
footprint 983-01_L (Thin QFP, 100-Leads, Body 14x14mm, Pitch 0.5mm, IPC High Density)
footprint 983-01_M (Thin QFP, 100-Leads, Body 14x14mm, Pitch 0.5mm, IPC Low Density)
3D model MC68307-983 (100-Pin Thin Quad Flat Pack 0.5 mm Pitch)
part A pins: 2 ~{WR} (out), 3 ~{AS} (hiz), 4 ~{UDS} (hiz), 5 ~{LDS} (hiz), 6 R/~{W} (hiz), 7 ~{DTACK} (io), 8 ~{RSTIN} (in), 10 ~{HALT} (io), 11 ~{RESET} (io), 12 TCK (in), 13 ~{CS}0 (out), 14 ~{CS}1 (out), 15 ~{CS2A}/~{CS}2 (out), 16 ~{CS}3 (out), 18 CLKOUT (out), 19 EXTAL (in), 20 XTAL (out), 21 BUSW (in), 22 A0/AD0 (io), 23 A1/AD1 (io), 24 A2/AD2 (io), 26 A3/AD3 (io), 27 A4/AD4 (io), 28 A5/AD5 (io), 29 A6/AD6 (io), 30 A7/AD7 (io), 31 A8 (out), 32 A9 (out), 34 A10 (out), 35 A11 (out), 36 A12 (out), 37 A13 (out), 38 A14 (out), 39 A15 (out), 40 A16 (out), 41 A17 (out), 43 A18 (out), 44 A19 (out), 45 A20 (out), 46 A21 (out), 47 A22 (out), 48 A23 (out), 49 ~{IRQ}7 (in), 50 PA7/~{BGACK} (io), 52 PA6/~{BG} (io), 53 PA5/~{BR} (io), 54 PA4/~{TOUT}2 (io), 55 PA3/~{TOUT}1 (io), 56 PA2/~{CS2D} (io), 57 PA1/~{CS2C} (io), 58 PA0/~{CS2B} (io), 60 PB15/~{INT}8 (io), 61 PB14/~{INT}7 (io), 62 PB13/~{INT}6 (io), 63 PB12/~{INT}5 (io), 64 PB11/~{INT}4 (io), 66 PB10/~{INT}3 (io), 67 PB9/~{INT}2 (io), 68 PB8/~{INT}1 (io), 69 PB7/TIN2 (io), 70 PB6/TIN1 (io), 71 PB5/~{CTS} (io), 72 PB4/~{RTS} (io), 73 PB3/RxD (io), 74 PB2/TxD (io), 76 PB1/SDA (io), 77 PB0/SCL (io), 78 TMS (in), 79 D15 (io), 80 D14 (io), 81 D13 (io), 82 D12 (io), 84 D11 (io), 85 D10 (io), 86 D9 (io), 87 D8 (io), 88 D7 (io), 89 D6 (io), 90 D5 (io), 91 D4 (io), 93 D3 (io), 94 D2 (io), 95 D1 (io), 96 D0 (io), 97 TDO (hiz), 98 TDI (in), 99 ALE (out), 100 ~{RD} (out)
part B pins: 1 VSS (power), 9 VDD (power), 17 VSS (power), 25 VDD (power), 33 VSS (power), 42 VDD (power), 51 VSS (power), 59 VDD (power), 65 VSS (power), 75 VDD (power), 83 VSS (power), 92 VDD (power)

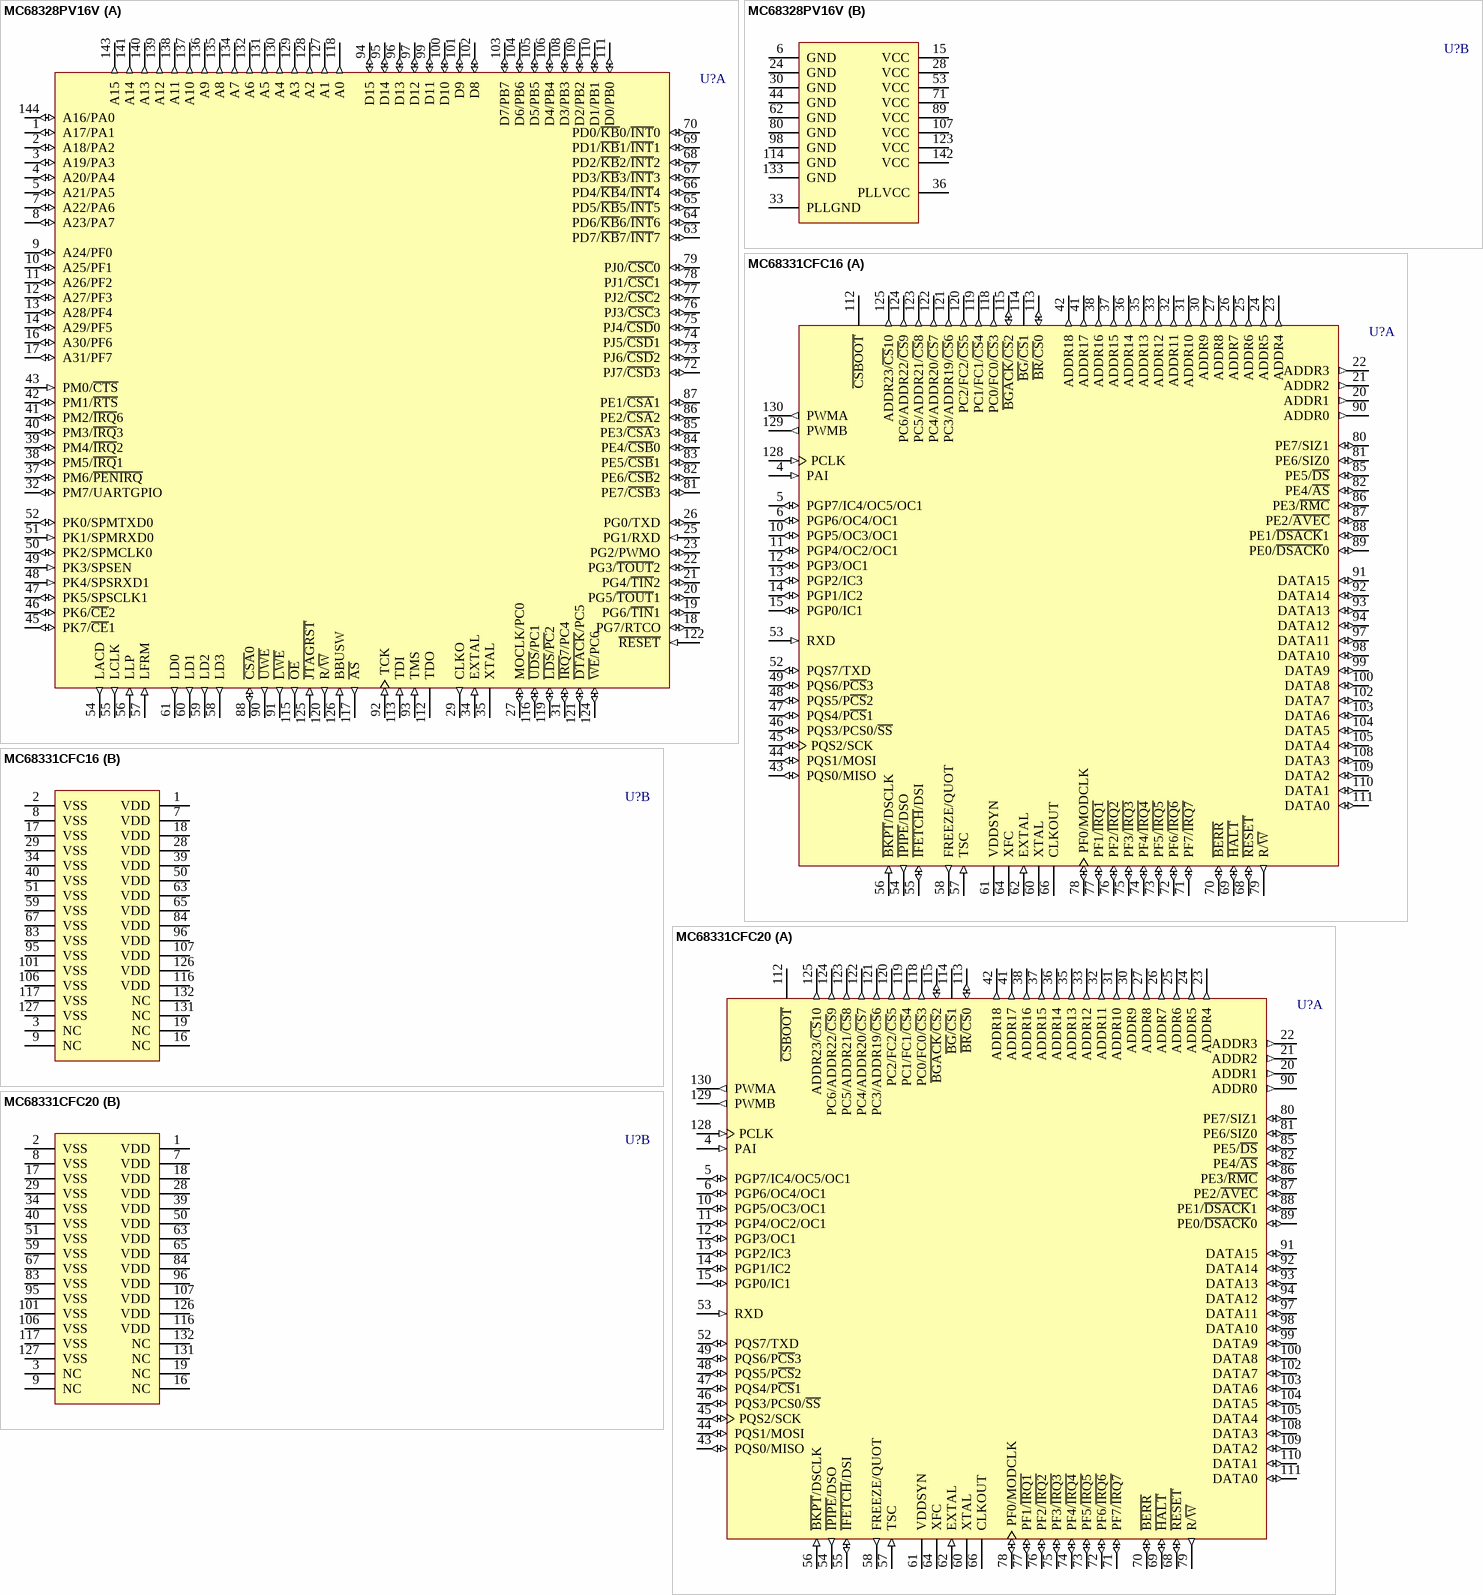
[diagram p90: symbols MC68328PV16V to MC68331CFC20]

## MC68328PV16V
designator U?
Integrated Microprocessor; Published: 21-Mar-2003; LatestRevisionDate: 13-Apr-2006; LatestRevisionNote: IPC-7351 Footprint Added.; DatasheetVersion: 6-Nov-1997; PackageVersion: rev7, Jan-2002; PackageReference: 918-03; Publisher: Altium Limited; PackageDescription: 144-Pin Thin Quad Flat Pack 0.5 mm Pitch; ComponentLink1Description: Manufacturer Link; ComponentLink1URL: http://www.freescale.com/
footprint 918-03_N (Thin QFP, 144-Leads, Body 20x20mm, Pitch 0.5mm, IPC Medium Density)
footprint 918-03_L (Thin QFP, 144-Leads, Body 20x20mm, Pitch 0.5mm, IPC High Density)
footprint 918-03_M (Thin QFP, 144-Leads, Body 20x20mm, Pitch 0.5mm, IPC Low Density)
3D model MC68328-918 (144-Pin Thin Quad Flat Pack 0.5 mm Pitch)
part A pins: 1 A17/PA1 (io), 2 A18/PA2 (io), 3 A19/PA3 (io), 4 A20/PA4 (io), 5 A21/PA5 (io), 7 A22/PA6 (io), 8 A23/PA7 (io), 9 A24/PF0 (io), 10 A25/PF1 (io), 11 A26/PF2 (io), 12 A27/PF3 (io), 13 A28/PF4 (io), 14 A29/PF5 (io), 16 A30/PF6 (io), 17 A31/PF7 (io), 18 PG7/RTCO (io), 19 PG6/~{TIN}1 (io), 20 PG5/~{TOUT}1 (io), 21 PG4/~{TIN}2 (io), 22 PG3/~{TOUT}2 (io), 23 PG2/PWMO (io), 25 PG1/RXD (in), 26 PG0/TXD (io), 27 MOCLK/PC0 (io), 29 CLKO (out), 31 ~{IRQ}7/PC4 (io), 32 PM7/UARTGPIO (io), 34 EXTAL (in), 35 XTAL, 37 PM6/~{PENIRQ} (io), 38 PM5/~{IRQ}1 (io), 39 PM4/~{IRQ}2 (io), 40 PM3/~{IRQ}3 (io), 41 PM2/~{IRQ}6 (io), 42 PM1/~{RTS} (io), 43 PM0/~{CTS} (in), 45 PK7/~{CE}1 (io), 46 PK6/~{CE}2 (io), 47 PK5/SPSCLK1 (io), 48 PK4/SPSRXD1 (in), 49 PK3/SPSEN (in), 50 PK2/SPMCLK0 (io), 51 PK1/SPMRXD0 (in), 52 PK0/SPMTXD0 (io), 54 LACD (out), 55 LCLK (out), 56 LLP (in), 57 LFRM (in), 58 LD3 (out), 59 LD2 (out), 60 LD1 (out), 61 LD0 (out), 63 PD7/~{KB}7/~{INT}7 (io), 64 PD6/~{KB}6/~{INT}6 (io), 65 PD5/~{KB}5/~{INT}5 (io), 66 PD4/~{KB}4/~{INT}4 (io), 67 PD3/~{KB}3/~{INT}3 (io), 68 PD2/~{KB}2/~{INT}2 (io), 69 PD1/~{KB}1/~{INT}1 (io), 70 PD0/~{KB}0/~{INT}0 (io), 72 PJ7/~{CSD}3 (io), 73 PJ6/~{CSD}2 (io), 74 PJ5/~{CSD}1 (io), 75 PJ4/~{CSD}0 (io), 76 PJ3/~{CSC}3 (io), 77 PJ2/~{CSC}2 (io), 78 PJ1/~{CSC}1 (io), 79 PJ0/~{CSC}0 (io), 81 PE7/~{CSB}3 (io), 82 PE6/~{CSB}2 (io), 83 PE5/~{CSB}1 (io), 84 PE4/~{CSB}0 (io), 85 PE3/~{CSA}3 (io), 86 PE2/~{CSA}2 (io), 87 PE1/~{CSA}1 (io), 88 ~{CSA}0 (io), 90 ~{UWE} (out), 91 ~{LWE} (out), 92 TCK (in), 93 TMS (in), 94 D15 (io), 95 D14 (io), 96 D13 (io), 97 D12 (io), 99 D11 (io), 100 D10 (io), 101 D9 (io), 102 D8 (io), 103 D7/PB7 (io), 104 D6/PB6 (io), 105 D5/PB5 (io), 106 D4/PB4 (io), 108 D3/PB3 (io), 109 D2/PB2 (io), 110 D1/PB1 (io), 111 D0/PB0 (io), 112 TDO (hiz), 113 TDI (in), 115 ~{OE} (out), 116 ~{UDS}/PC1 (io), 117 ~{AS} (out), 118 A0 (out), 119 ~{LDS}/~{PC}2 (io), 120 R/~{W} (out), 121 ~{DTACK}/PC5 (io), 122 ~{RESET} (in), 124 ~{WE}/PC6 (io), 125 ~{JTAGRST} (in), 126 BBUSW (in), 127 A1 (out), 128 A2 (out), 129 A3 (out), 130 A4 (out), 131 A5 (out), 132 A6 (out), 134 A7 (out), 135 A8 (out), 136 A9 (out), 137 A10 (out), 138 A11 (out), 139 A12 (out), 140 A13 (out), 141 A14 (out), 143 A15 (out), 144 A16/PA0 (io)
part B pins: 6 GND (power), 15 VCC (power), 24 GND (power), 28 VCC (power), 30 GND (power), 33 PLLGND (power), 36 PLLVCC (power), 44 GND (power), 53 VCC (power), 62 GND (power), 71 VCC (power), 80 GND (power), 89 VCC (power), 98 GND (power), 107 VCC (power), 114 GND (power), 123 VCC (power), 133 GND (power), 142 VCC (power)

## MC68331CFC16
designator U?
32-Bit Microcontroller; Published: 21-Mar-2003; DatasheetVersion: Jan-1996; PackageVersion: 1997; PackageReference: 831A-01; Publisher: Altium Limited; PackageDescription: PQFP; 132 Leads; Body 24 x 24 mm; Pitch 0.635 mm; ComponentLink1Description: Manufacturer Link; ComponentLink1URL: http://www.freescale.com/; ComponentLink2Description: Datasheet; ComponentLink2URL: http://www.freescale.com/files/microcontrollers/doc/data_sheet/MC68331TS.pdf
footprint 831A-01 (PQFP; 132 Leads; Body 24 x 24 mm; Pitch 0.635 mm)
part A pins: 4 PAI (in), 5 PGP7/IC4/OC5/OC1 (io), 6 PGP6/OC4/OC1 (io), 10 PGP5/OC3/OC1 (io), 11 PGP4/OC2/OC1 (io), 12 PGP3/OC1 (io), 13 PGP2/IC3 (io), 14 PGP1/IC2 (io), 15 PGP0/IC1 (io), 20 ADDR1 (out), 21 ADDR2 (out), 22 ADDR3 (out), 23 ADDR4 (out), 24 ADDR5 (out), 25 ADDR6 (out), 26 ADDR7 (out), 27 ADDR8 (out), 30 ADDR9 (out), 31 ADDR10 (out), 32 ADDR11 (out), 33 ADDR12 (out), 35 ADDR13 (out), 36 ADDR14 (out), 37 ADDR15 (out), 38 ADDR16 (out), 41 ADDR17 (out), 42 ADDR18 (out), 43 PQS0/MISO (io), 44 PQS1/MOSI (io), 45 PQS2/SCK (io), 46 PQS3/PCS0/~{SS} (io), 47 PQS4/P~{CS}1 (io), 48 PQS5/P~{CS}2 (io), 49 PQS6/P~{CS}3 (io), 52 PQS7/TXD (io), 53 RXD (in), 54 ~{IPIPE}/DSO (out), 55 ~{IFETCH}/DSI (io), 56 ~{BKPT}/DSCLK (in), 57 TSC (in), 58 FREEZE/QUOT (out), 60 XTAL, 61 VDDSYN (power), 62 EXTAL (in), 64 XFC, 66 CLKOUT (hiz), 68 ~{RESET} (io), 69 ~{HALT} (io), 70 ~{BERR} (io), 71 PF7/~{IRQ7} (io), 72 PF6/~{IRQ6} (io), 73 PF5/~{IRQ5} (io), 74 PF4/~{IRQ4} (io), 75 PF3/~{IRQ3} (io), 76 PF2/~{IRQ2} (io), 77 PF1/~{IRQ1} (io), 78 PF0/MODCLK (io), 79 R/~{W} (out), 80 PE7/SIZ1 (io), 81 PE6/SIZ0 (io), 82 PE4/~{AS} (io), 85 PE5/~{DS} (io), 86 PE3/~{RMC} (io), 87 PE2/~{AVEC} (io), 88 PE1/~{DSACK}1 (io), 89 PE0/~{DSACK}0 (io), 90 ADDR0 (out), 91 DATA15 (io), 92 DATA14 (io), 93 DATA13 (io), 94 DATA12 (io), 97 DATA11 (io), 98 DATA10 (io), 99 DATA9 (io), 100 DATA8 (io), 102 DATA7 (io), 103 DATA6 (io), 104 DATA5 (io), 105 DATA4 (io), 108 DATA3 (io), 109 DATA2 (io), 110 DATA1 (io), 111 DATA0 (io), 112 ~{CSBOOT} (hiz), 113 ~{BR}/~{CS}0 (io), 114 ~{BG}/~{CS}1 (hiz), 115 ~{BGACK}/~{CS}2 (io), 118 PC0/FC0/~{CS}3 (out), 119 PC1/FC1/~{CS}4 (out), 120 PC2/FC2/~{CS}5 (out), 121 PC3/ADDR19/~{CS}6 (out), 122 PC4/ADDR20/~{CS}7 (out), 123 PC5/ADDR21/~{CS}8 (out), 124 PC6/ADDR22/~{CS}9 (out), 125 ADDR23/~{CS}10 (out), 128 PCLK (in), 129 PWMB (out), 130 PWMA (out)
part B pins: 1 VDD (power), 2 VSS (power), 3 NC, 7 VDD (power), 8 VSS (power), 9 NC, 16 NC, 17 VSS (power), 18 VDD (power), 19 NC, 28 VDD (power), 29 VSS (power), 34 VSS (power), 39 VDD (power), 40 VSS (power), 50 VDD (power), 51 VSS (power), 59 VSS (power), 63 VDD (power), 65 VDD (power), 67 VSS (power), 83 VSS (power), 84 VDD (power), 95 VSS (power), 96 VDD (power), 101 VSS (power), 106 VSS (power), 107 VDD (power), 116 VDD (power), 117 VSS (power), 126 VDD (power), 127 VSS (power), 131 NC, 132 NC

## MC68331CFC20
designator U?
32-Bit Microcontroller; Published: 21-Mar-2003; DatasheetVersion: Jan-1996; PackageVersion: 1997; PackageReference: 831A-01; Publisher: Altium Limited; PackageDescription: PQFP; 132 Leads; Body 24 x 24 mm; Pitch 0.635 mm; ComponentLink1Description: Manufacturer Link; ComponentLink1URL: http://www.freescale.com/; ComponentLink2Description: Datasheet; ComponentLink2URL: http://www.freescale.com/files/microcontrollers/doc/data_sheet/MC68331TS.pdf
footprint 831A-01 (PQFP; 132 Leads; Body 24 x 24 mm; Pitch 0.635 mm)
part A pins: 4 PAI (in), 5 PGP7/IC4/OC5/OC1 (io), 6 PGP6/OC4/OC1 (io), 10 PGP5/OC3/OC1 (io), 11 PGP4/OC2/OC1 (io), 12 PGP3/OC1 (io), 13 PGP2/IC3 (io), 14 PGP1/IC2 (io), 15 PGP0/IC1 (io), 20 ADDR1 (out), 21 ADDR2 (out), 22 ADDR3 (out), 23 ADDR4 (out), 24 ADDR5 (out), 25 ADDR6 (out), 26 ADDR7 (out), 27 ADDR8 (out), 30 ADDR9 (out), 31 ADDR10 (out), 32 ADDR11 (out), 33 ADDR12 (out), 35 ADDR13 (out), 36 ADDR14 (out), 37 ADDR15 (out), 38 ADDR16 (out), 41 ADDR17 (out), 42 ADDR18 (out), 43 PQS0/MISO (io), 44 PQS1/MOSI (io), 45 PQS2/SCK (io), 46 PQS3/PCS0/~{SS} (io), 47 PQS4/P~{CS}1 (io), 48 PQS5/P~{CS}2 (io), 49 PQS6/P~{CS}3 (io), 52 PQS7/TXD (io), 53 RXD (in), 54 ~{IPIPE}/DSO (out), 55 ~{IFETCH}/DSI (io), 56 ~{BKPT}/DSCLK (in), 57 TSC (in), 58 FREEZE/QUOT (out), 60 XTAL, 61 VDDSYN (power), 62 EXTAL (in), 64 XFC, 66 CLKOUT (hiz), 68 ~{RESET} (io), 69 ~{HALT} (io), 70 ~{BERR} (io), 71 PF7/~{IRQ7} (io), 72 PF6/~{IRQ6} (io), 73 PF5/~{IRQ5} (io), 74 PF4/~{IRQ4} (io), 75 PF3/~{IRQ3} (io), 76 PF2/~{IRQ2} (io), 77 PF1/~{IRQ1} (io), 78 PF0/MODCLK (io), 79 R/~{W} (out), 80 PE7/SIZ1 (io), 81 PE6/SIZ0 (io), 82 PE4/~{AS} (io), 85 PE5/~{DS} (io), 86 PE3/~{RMC} (io), 87 PE2/~{AVEC} (io), 88 PE1/~{DSACK}1 (io), 89 PE0/~{DSACK}0 (io), 90 ADDR0 (out), 91 DATA15 (io), 92 DATA14 (io), 93 DATA13 (io), 94 DATA12 (io), 97 DATA11 (io), 98 DATA10 (io), 99 DATA9 (io), 100 DATA8 (io), 102 DATA7 (io), 103 DATA6 (io), 104 DATA5 (io), 105 DATA4 (io), 108 DATA3 (io), 109 DATA2 (io), 110 DATA1 (io), 111 DATA0 (io), 112 ~{CSBOOT} (hiz), 113 ~{BR}/~{CS}0 (io), 114 ~{BG}/~{CS}1 (hiz), 115 ~{BGACK}/~{CS}2 (io), 118 PC0/FC0/~{CS}3 (out), 119 PC1/FC1/~{CS}4 (out), 120 PC2/FC2/~{CS}5 (out), 121 PC3/ADDR19/~{CS}6 (out), 122 PC4/ADDR20/~{CS}7 (out), 123 PC5/ADDR21/~{CS}8 (out), 124 PC6/ADDR22/~{CS}9 (out), 125 ADDR23/~{CS}10 (out), 128 PCLK (in), 129 PWMB (out), 130 PWMA (out)
part B pins: 1 VDD (power), 2 VSS (power), 3 NC, 7 VDD (power), 8 VSS (power), 9 NC, 16 NC, 17 VSS (power), 18 VDD (power), 19 NC, 28 VDD (power), 29 VSS (power), 34 VSS (power), 39 VDD (power), 40 VSS (power), 50 VDD (power), 51 VSS (power), 59 VSS (power), 63 VDD (power), 65 VDD (power), 67 VSS (power), 83 VSS (power), 84 VDD (power), 95 VSS (power), 96 VDD (power), 101 VSS (power), 106 VSS (power), 107 VDD (power), 116 VDD (power), 117 VSS (power), 126 VDD (power), 127 VSS (power), 131 NC, 132 NC

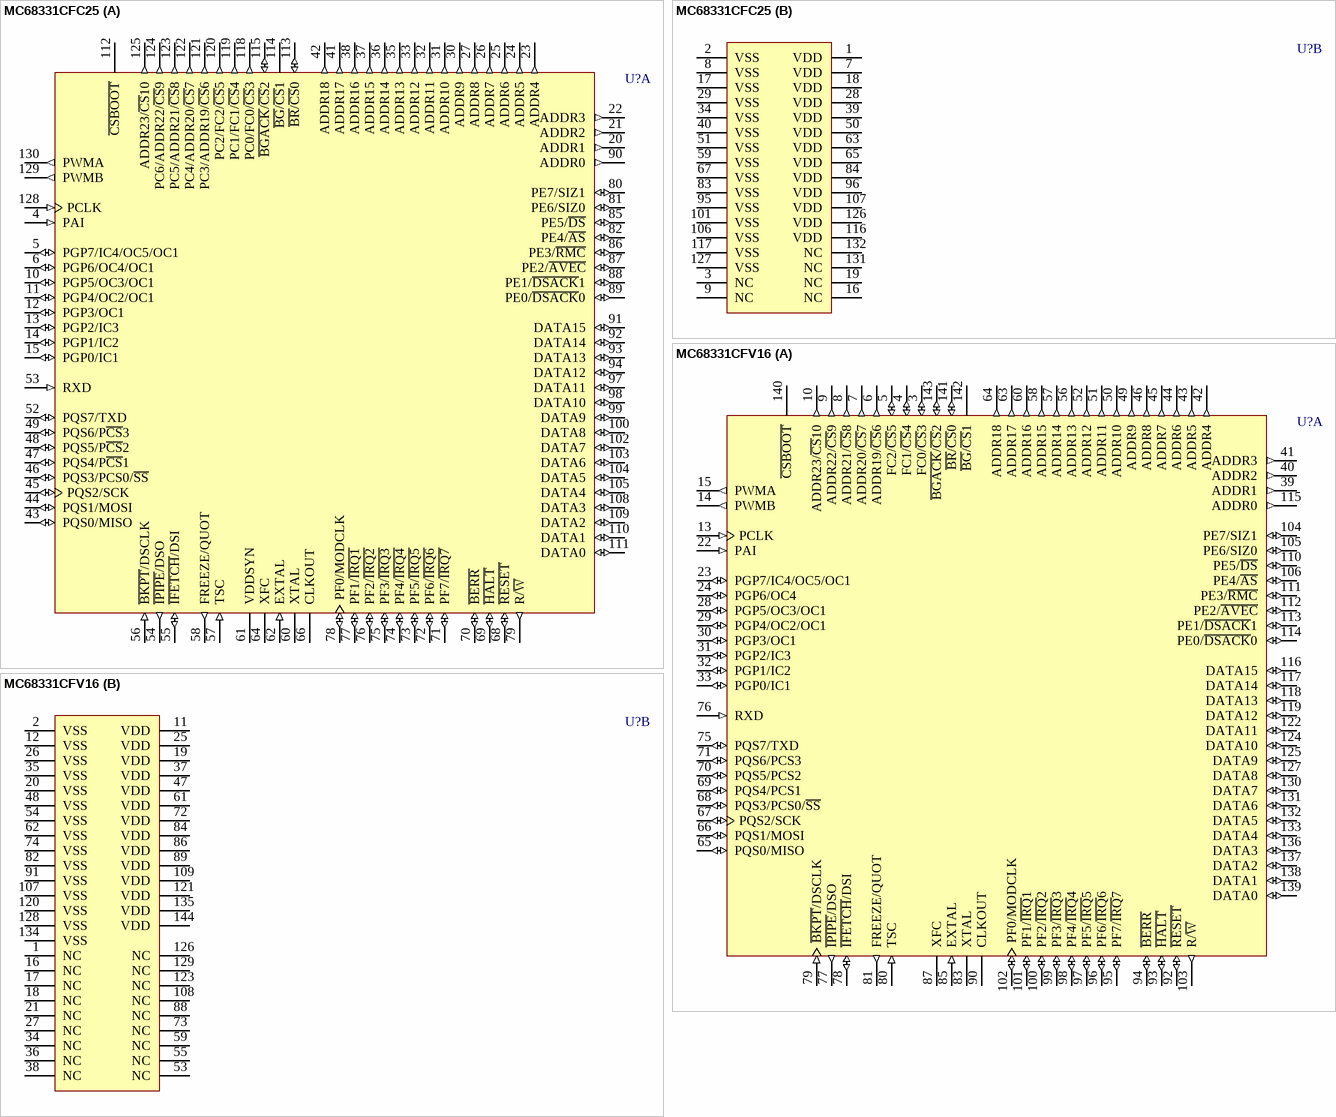
[diagram p91: symbols MC68331CFC25 to MC68331CFV16]

## MC68331CFC25
designator U?
32-Bit Microcontroller; Published: 21-Mar-2003; DatasheetVersion: Jan-1996; PackageVersion: 1997; PackageReference: 831A-01; Publisher: Altium Limited; PackageDescription: PQFP; 132 Leads; Body 24 x 24 mm; Pitch 0.635 mm; ComponentLink1Description: Manufacturer Link; ComponentLink1URL: http://www.freescale.com/; ComponentLink2Description: Datasheet; ComponentLink2URL: http://www.freescale.com/files/microcontrollers/doc/data_sheet/MC68331TS.pdf
footprint 831A-01 (PQFP; 132 Leads; Body 24 x 24 mm; Pitch 0.635 mm)
part A pins: 4 PAI (in), 5 PGP7/IC4/OC5/OC1 (io), 6 PGP6/OC4/OC1 (io), 10 PGP5/OC3/OC1 (io), 11 PGP4/OC2/OC1 (io), 12 PGP3/OC1 (io), 13 PGP2/IC3 (io), 14 PGP1/IC2 (io), 15 PGP0/IC1 (io), 20 ADDR1 (out), 21 ADDR2 (out), 22 ADDR3 (out), 23 ADDR4 (out), 24 ADDR5 (out), 25 ADDR6 (out), 26 ADDR7 (out), 27 ADDR8 (out), 30 ADDR9 (out), 31 ADDR10 (out), 32 ADDR11 (out), 33 ADDR12 (out), 35 ADDR13 (out), 36 ADDR14 (out), 37 ADDR15 (out), 38 ADDR16 (out), 41 ADDR17 (out), 42 ADDR18 (out), 43 PQS0/MISO (io), 44 PQS1/MOSI (io), 45 PQS2/SCK (io), 46 PQS3/PCS0/~{SS} (io), 47 PQS4/P~{CS}1 (io), 48 PQS5/P~{CS}2 (io), 49 PQS6/P~{CS}3 (io), 52 PQS7/TXD (io), 53 RXD (in), 54 ~{IPIPE}/DSO (out), 55 ~{IFETCH}/DSI (io), 56 ~{BKPT}/DSCLK (in), 57 TSC (in), 58 FREEZE/QUOT (out), 60 XTAL, 61 VDDSYN (power), 62 EXTAL (in), 64 XFC, 66 CLKOUT (hiz), 68 ~{RESET} (io), 69 ~{HALT} (io), 70 ~{BERR} (io), 71 PF7/~{IRQ7} (io), 72 PF6/~{IRQ6} (io), 73 PF5/~{IRQ5} (io), 74 PF4/~{IRQ4} (io), 75 PF3/~{IRQ3} (io), 76 PF2/~{IRQ2} (io), 77 PF1/~{IRQ1} (io), 78 PF0/MODCLK (io), 79 R/~{W} (out), 80 PE7/SIZ1 (io), 81 PE6/SIZ0 (io), 82 PE4/~{AS} (io), 85 PE5/~{DS} (io), 86 PE3/~{RMC} (io), 87 PE2/~{AVEC} (io), 88 PE1/~{DSACK}1 (io), 89 PE0/~{DSACK}0 (io), 90 ADDR0 (out), 91 DATA15 (io), 92 DATA14 (io), 93 DATA13 (io), 94 DATA12 (io), 97 DATA11 (io), 98 DATA10 (io), 99 DATA9 (io), 100 DATA8 (io), 102 DATA7 (io), 103 DATA6 (io), 104 DATA5 (io), 105 DATA4 (io), 108 DATA3 (io), 109 DATA2 (io), 110 DATA1 (io), 111 DATA0 (io), 112 ~{CSBOOT} (hiz), 113 ~{BR}/~{CS}0 (io), 114 ~{BG}/~{CS}1 (hiz), 115 ~{BGACK}/~{CS}2 (io), 118 PC0/FC0/~{CS}3 (out), 119 PC1/FC1/~{CS}4 (out), 120 PC2/FC2/~{CS}5 (out), 121 PC3/ADDR19/~{CS}6 (out), 122 PC4/ADDR20/~{CS}7 (out), 123 PC5/ADDR21/~{CS}8 (out), 124 PC6/ADDR22/~{CS}9 (out), 125 ADDR23/~{CS}10 (out), 128 PCLK (in), 129 PWMB (out), 130 PWMA (out)
part B pins: 1 VDD (power), 2 VSS (power), 3 NC, 7 VDD (power), 8 VSS (power), 9 NC, 16 NC, 17 VSS (power), 18 VDD (power), 19 NC, 28 VDD (power), 29 VSS (power), 34 VSS (power), 39 VDD (power), 40 VSS (power), 50 VDD (power), 51 VSS (power), 59 VSS (power), 63 VDD (power), 65 VDD (power), 67 VSS (power), 83 VSS (power), 84 VDD (power), 95 VSS (power), 96 VDD (power), 101 VSS (power), 106 VSS (power), 107 VDD (power), 116 VDD (power), 117 VSS (power), 126 VDD (power), 127 VSS (power), 131 NC, 132 NC

## MC68331CFV16
designator U?
32-Bit Microcontroller; Published: 21-Mar-2003; LatestRevisionDate: 13-Apr-2006; LatestRevisionNote: IPC-7351 Footprint Added.; DatasheetVersion: Jan-1996; PackageVersion: Oct-2000; PackageReference: 863C-01; Publisher: Altium Limited; PackageDescription: 144-Pin Shrink Quad Flat Pack 0.5 mm Pitch; ComponentLink1Description: Manufacturer Link; ComponentLink1URL: http://www.freescale.com/; ComponentLink2Description: Datasheet; ComponentLink2URL: http://www.freescale.com/files/microcontrollers/doc/data_sheet/MC68331TS.pdf
footprint 863C-01_N (Shrink QFP, 144-Leads, Body 20x20mm, Pitch 0.5mm, IPC Medium Density)
footprint 863C-01_L (Shrink QFP, 144-Leads, Body 20x20mm, Pitch 0.5mm, IPC High Density)
footprint 863C-01_M (Shrink QFP, 144-Leads, Body 20x20mm, Pitch 0.5mm, IPC Low Density)
3D model MC68331-863C-01 (144-Pin Shrink Quad Flat Pack 0.5 mm Pitch)
part A pins: 3 FC0/~{CS}3 (io), 4 FC1/~{CS}4 (io), 5 FC2/~{CS}5 (io), 6 ADDR19/~{CS}6 (out), 7 ADDR20/~{CS}7 (out), 8 ADDR21/~{CS}8 (out), 9 ADDR22/~{CS}9 (out), 10 ADDR23/~{CS}10 (out), 13 PCLK (in), 14 PWMB (out), 15 PWMA (out), 22 PAI (in), 23 PGP7/IC4/OC5/OC1 (io), 24 PGP6/OC4 (io), 28 PGP5/OC3/OC1 (io), 29 PGP4/OC2/OC1 (io), 30 PGP3/OC1 (io), 31 PGP2/IC3 (io), 32 PGP1/IC2 (io), 33 PGP0/IC1 (io), 39 ADDR1 (out), 40 ADDR2 (out), 41 ADDR3 (out), 42 ADDR4 (out), 43 ADDR5 (out), 44 ADDR6 (out), 45 ADDR7 (out), 46 ADDR8 (out), 49 ADDR9 (out), 50 ADDR10 (out), 51 ADDR11 (out), 52 ADDR12 (out), 56 ADDR13 (out), 57 ADDR14 (out), 58 ADDR15 (out), 60 ADDR16 (out), 63 ADDR17 (out), 64 ADDR18 (out), 65 PQS0/MISO (io), 66 PQS1/MOSI (io), 67 PQS2/SCK (io), 68 PQS3/PCS0/~{SS} (io), 69 PQS4/PCS1 (io), 70 PQS5/PCS2 (io), 71 PQS6/PCS3 (io), 75 PQS7/TXD (io), 76 RXD (in), 77 ~{IPIPE}/DSO (out), 78 ~{IFETCH}/DSI (io), 79 ~{BKPT}/DSCLK (in), 80 TSC (in), 81 FREEZE/QUOT (out), 83 XTAL, 85 EXTAL (in), 87 XFC, 90 CLKOUT (hiz), 92 ~{RESET} (io), 93 ~{HALT} (io), 94 ~{BERR} (io), 95 PF7/~{IRQ}7 (io), 96 PF6/~{IRQ}6 (io), 97 PF5/~{IRQ}5 (io), 98 PF4/~{IRQ}4 (io), 99 PF3/~{IRQ}3 (io), 100 PF2/~{IRQ}2 (io), 101 PF1/~{IRQ}1 (io), 102 PF0/MODCLK (io), 103 R/~{W} (out), 104 PE7/SIZ1 (io), 105 PE6/SIZ0 (io), 106 PE4/~{AS} (io), 110 PE5/~{DS} (io), 111 PE3/~{RMC} (io), 112 PE2/~{AVEC} (io), 113 PE1/~{DSACK}1 (io), 114 PE0/~{DSACK}0 (io), 115 ADDR0 (out), 116 DATA15 (io), 117 DATA14 (io), 118 DATA13 (io), 119 DATA12 (io), 122 DATA11 (io), 124 DATA10 (io), 125 DATA9 (io), 127 DATA8 (io), 130 DATA7 (io), 131 DATA6 (io), 132 DATA5 (io), 133 DATA4 (io), 136 DATA3 (io), 137 DATA2 (io), 138 DATA1 (io), 139 DATA0 (io), 140 ~{CSBOOT} (hiz), 141 ~{BR}/~{CS}0 (io), 142 ~{BG}/~{CS}1 (hiz), 143 ~{BGACK}/~{CS}2 (io)
part B pins: 1 NC, 2 VSS (power), 11 VDD (power), 12 VSS (power), 16 NC, 17 NC, 18 NC, 19 VDD (power), 20 VSS (power), 21 NC, 25 VDD (power), 26 VSS (power), 27 NC, 34 NC, 35 VSS (power), 36 NC, 37 VDD (power), 38 NC, 47 VDD (power), 48 VSS (power), 53 NC, 54 VSS (power), 55 NC, 59 NC, 61 VDD (power), 62 VSS (power), 72 VDD (power), 73 NC, 74 VSS (power), 82 VSS (power), 84 VDD (power), 86 VDD (power), 88 NC, 89 VDD (power), 91 VSS (power), 107 VSS (power), 108 NC, 109 VDD (power), 120 VSS (power), 121 VDD (power), 123 NC, 126 NC, 128 VSS (power), 129 NC, 134 VSS (power), 135 VDD (power), 144 VDD (power)

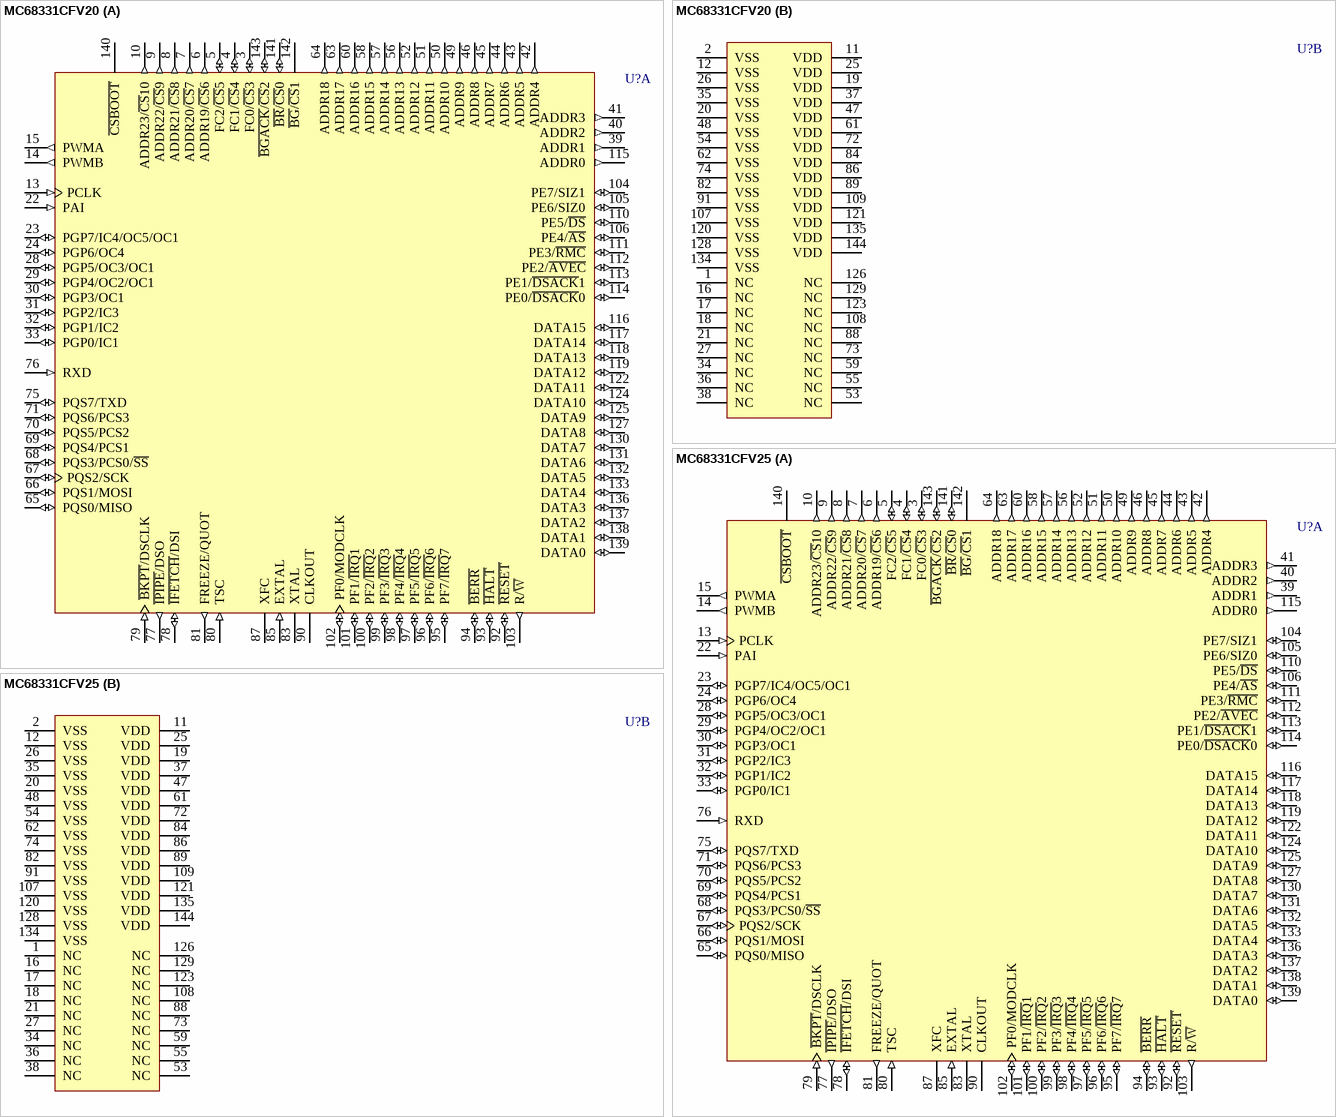
[diagram p92: symbols MC68331CFV20 to MC68331CFV25]

## MC68331CFV20
designator U?
32-Bit Microcontroller; Published: 21-Mar-2003; LatestRevisionDate: 13-Apr-2006; LatestRevisionNote: IPC-7351 Footprint Added.; DatasheetVersion: Jan-1996; PackageVersion: Oct-2000; PackageReference: 863C-01; Publisher: Altium Limited; PackageDescription: 144-Pin Shrink Quad Flat Pack 0.5 mm Pitch; ComponentLink1Description: Manufacturer Link; ComponentLink1URL: http://www.freescale.com/; ComponentLink2Description: Datasheet; ComponentLink2URL: http://www.freescale.com/files/microcontrollers/doc/data_sheet/MC68331TS.pdf
footprint 863C-01_N (Shrink QFP, 144-Leads, Body 20x20mm, Pitch 0.5mm, IPC Medium Density)
footprint 863C-01_L (Shrink QFP, 144-Leads, Body 20x20mm, Pitch 0.5mm, IPC High Density)
footprint 863C-01_M (Shrink QFP, 144-Leads, Body 20x20mm, Pitch 0.5mm, IPC Low Density)
3D model MC68331-863C-01 (144-Pin Shrink Quad Flat Pack 0.5 mm Pitch)
part A pins: 3 FC0/~{CS}3 (io), 4 FC1/~{CS}4 (io), 5 FC2/~{CS}5 (io), 6 ADDR19/~{CS}6 (out), 7 ADDR20/~{CS}7 (out), 8 ADDR21/~{CS}8 (out), 9 ADDR22/~{CS}9 (out), 10 ADDR23/~{CS}10 (out), 13 PCLK (in), 14 PWMB (out), 15 PWMA (out), 22 PAI (in), 23 PGP7/IC4/OC5/OC1 (io), 24 PGP6/OC4 (io), 28 PGP5/OC3/OC1 (io), 29 PGP4/OC2/OC1 (io), 30 PGP3/OC1 (io), 31 PGP2/IC3 (io), 32 PGP1/IC2 (io), 33 PGP0/IC1 (io), 39 ADDR1 (out), 40 ADDR2 (out), 41 ADDR3 (out), 42 ADDR4 (out), 43 ADDR5 (out), 44 ADDR6 (out), 45 ADDR7 (out), 46 ADDR8 (out), 49 ADDR9 (out), 50 ADDR10 (out), 51 ADDR11 (out), 52 ADDR12 (out), 56 ADDR13 (out), 57 ADDR14 (out), 58 ADDR15 (out), 60 ADDR16 (out), 63 ADDR17 (out), 64 ADDR18 (out), 65 PQS0/MISO (io), 66 PQS1/MOSI (io), 67 PQS2/SCK (io), 68 PQS3/PCS0/~{SS} (io), 69 PQS4/PCS1 (io), 70 PQS5/PCS2 (io), 71 PQS6/PCS3 (io), 75 PQS7/TXD (io), 76 RXD (in), 77 ~{IPIPE}/DSO (out), 78 ~{IFETCH}/DSI (io), 79 ~{BKPT}/DSCLK (in), 80 TSC (in), 81 FREEZE/QUOT (out), 83 XTAL, 85 EXTAL (in), 87 XFC, 90 CLKOUT (hiz), 92 ~{RESET} (io), 93 ~{HALT} (io), 94 ~{BERR} (io), 95 PF7/~{IRQ}7 (io), 96 PF6/~{IRQ}6 (io), 97 PF5/~{IRQ}5 (io), 98 PF4/~{IRQ}4 (io), 99 PF3/~{IRQ}3 (io), 100 PF2/~{IRQ}2 (io), 101 PF1/~{IRQ}1 (io), 102 PF0/MODCLK (io), 103 R/~{W} (out), 104 PE7/SIZ1 (io), 105 PE6/SIZ0 (io), 106 PE4/~{AS} (io), 110 PE5/~{DS} (io), 111 PE3/~{RMC} (io), 112 PE2/~{AVEC} (io), 113 PE1/~{DSACK}1 (io), 114 PE0/~{DSACK}0 (io), 115 ADDR0 (out), 116 DATA15 (io), 117 DATA14 (io), 118 DATA13 (io), 119 DATA12 (io), 122 DATA11 (io), 124 DATA10 (io), 125 DATA9 (io), 127 DATA8 (io), 130 DATA7 (io), 131 DATA6 (io), 132 DATA5 (io), 133 DATA4 (io), 136 DATA3 (io), 137 DATA2 (io), 138 DATA1 (io), 139 DATA0 (io), 140 ~{CSBOOT} (hiz), 141 ~{BR}/~{CS}0 (io), 142 ~{BG}/~{CS}1 (hiz), 143 ~{BGACK}/~{CS}2 (io)
part B pins: 1 NC, 2 VSS (power), 11 VDD (power), 12 VSS (power), 16 NC, 17 NC, 18 NC, 19 VDD (power), 20 VSS (power), 21 NC, 25 VDD (power), 26 VSS (power), 27 NC, 34 NC, 35 VSS (power), 36 NC, 37 VDD (power), 38 NC, 47 VDD (power), 48 VSS (power), 53 NC, 54 VSS (power), 55 NC, 59 NC, 61 VDD (power), 62 VSS (power), 72 VDD (power), 73 NC, 74 VSS (power), 82 VSS (power), 84 VDD (power), 86 VDD (power), 88 NC, 89 VDD (power), 91 VSS (power), 107 VSS (power), 108 NC, 109 VDD (power), 120 VSS (power), 121 VDD (power), 123 NC, 126 NC, 128 VSS (power), 129 NC, 134 VSS (power), 135 VDD (power), 144 VDD (power)